# Altium integrated library Microchip DSC 16-Bit dsPIC33F.IntLib: 595 symbols (part 14 of 31)
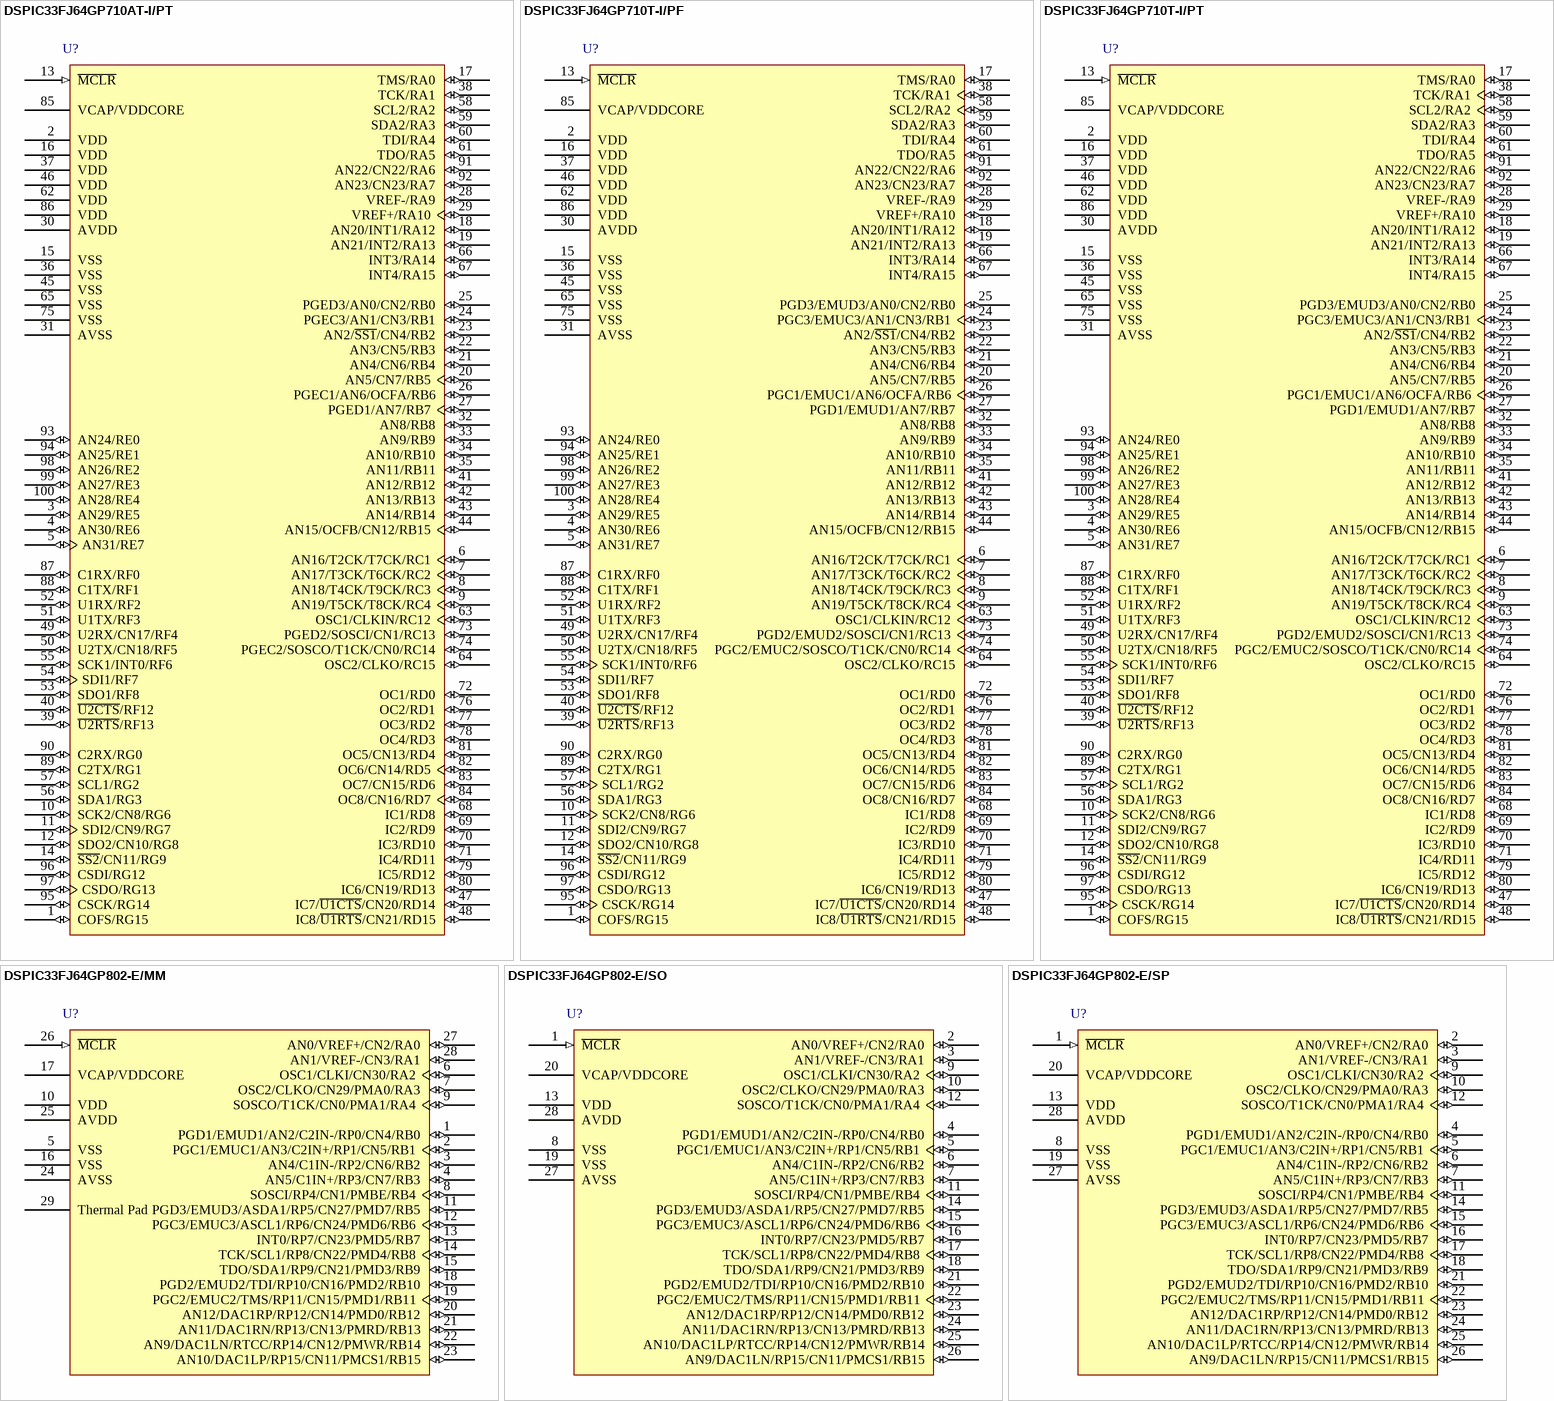
[diagram p131: symbols DSPIC33FJ64GP710AT-I/PT to DSPIC33FJ64GP802-E/SP]

## DSPIC33FJ64GP710T-I/PT
designator U?
High-Performance 16-bit Digital Signal Controller, 64 KB Flash, 16 KB RAM, 100-Pin TQFP, Industrial Temperature, Tape and Reel; FirstPublished: 29-Jan-2009; LatestRevisionDate: 02-Dec-2009; LatestRevisionNote: Updated to datasheet revision C, Mar-2009; DatasheetVersion: revC, Mar-2009; PackageVersion: revBB, Aug-2009; PackageReference: TQFP-PT100; Publisher: Altium Limited; PackageDescription: 100-Lead Plastic Thin Quad Flatpack (PT) - 12x12x1mm Body, 2.00mm [TQFP]; Supplier 1: Digi-Key; Supplier Part Number 1: DSPIC33FJ64GP710T-I/PT-ND; Supplier 2: Newark; Supplier Part Number 2: 54M4535; ComponentLink1Description: Datasheet; ComponentLink1URL: http://ww1.microchip.com/downloads/en/DeviceDoc/70286C.pdf; ComponentLink2Description: Packaging Specification; ComponentLink2URL: http://www.microchip.com/stellent/groups/techpub_sg/documents/packagingspec/en012702.pdf; ComponentLink3Description: Microchip.com Home; ComponentLink3URL: http://www.microchip.com/
footprint TQFP-PT100_N (Thin QFP, 100-Leads, Body 12x12mm, Pitch 0.4mm, IPC Medium Density)
footprint TQFP-PT100_L (Thin QFP, 100-Leads, Body 12x12mm, Pitch 0.4mm, IPC High Density)
footprint TQFP-PT100_M (Thin QFP, 100-Leads, Body 12x12mm, Pitch 0.4mm, IPC Low Density)
pins: 1 COFS/RG15 (io), 2 VDD (power), 3 AN29/RE5 (io), 4 AN30/RE6 (io), 5 AN31/RE7 (io), 6 AN16/T2CK/T7CK/RC1 (io), 7 AN17/T3CK/T6CK/RC2 (io), 8 AN18/T4CK/T9CK/RC3 (io), 9 AN19/T5CK/T8CK/RC4 (io), 10 SCK2/CN8/RG6 (io), 11 SDI2/CN9/RG7 (io), 12 SDO2/CN10/RG8 (io), 13 ~{MCLR} (in), 14 ~{SS2}/CN11/RG9 (io), 15 VSS (power), 16 VDD (power), 17 TMS/RA0 (io), 18 AN20/INT1/RA12 (io), 19 AN21/INT2/RA13 (io), 20 AN5/CN7/RB5 (io), 21 AN4/CN6/RB4 (io), 22 AN3/CN5/RB3 (io), 23 AN2/~{SS1}/CN4/RB2 (io), 24 PGC3/EMUC3/AN1/CN3/RB1 (io), 25 PGD3/EMUD3/AN0/CN2/RB0 (io), 26 PGC1/EMUC1/AN6/OCFA/RB6 (io), 27 PGD1/EMUD1/AN7/RB7 (io), 28 VREF-/RA9 (io), 29 VREF+/RA10 (io), 30 AVDD (power), 31 AVSS (power), 32 AN8/RB8 (io), 33 AN9/RB9 (io), 34 AN10/RB10 (io), 35 AN11/RB11 (io), 36 VSS (power), 37 VDD (power), 38 TCK/RA1 (io), 39 ~{U2RTS}/RF13 (io), 40 ~{U2CTS}/RF12 (io), 41 AN12/RB12 (io), 42 AN13/RB13 (io), 43 AN14/RB14 (io), 44 AN15/OCFB/CN12/RB15 (io), 45 VSS (power), 46 VDD (power), 47 IC7/~{U1CTS}/CN20/RD14 (io), 48 IC8/~{U1RTS}/CN21/RD15 (io), 49 U2RX/CN17/RF4 (io), 50 U2TX/CN18/RF5 (io), 51 U1TX/RF3 (io), 52 U1RX/RF2 (io), 53 SDO1/RF8 (io), 54 SDI1/RF7 (io), 55 SCK1/INT0/RF6 (io), 56 SDA1/RG3 (io), 57 SCL1/RG2 (io), 58 SCL2/RA2 (io), 59 SDA2/RA3 (io), 60 TDI/RA4 (io), 61 TDO/RA5 (io), 62 VDD (power), 63 OSC1/CLKIN/RC12 (io), 64 OSC2/CLKO/RC15 (io), 65 VSS (power), 66 INT3/RA14 (io), 67 INT4/RA15 (io), 68 IC1/RD8 (io), 69 IC2/RD9 (io), 70 IC3/RD10 (io), 71 IC4/RD11 (io), 72 OC1/RD0 (io), 73 PGD2/EMUD2/SOSCI/CN1/RC13 (io), 74 PGC2/EMUC2/SOSCO/T1CK/CN0/RC14 (io), 75 VSS (power), 76 OC2/RD1 (io), 77 OC3/RD2 (io), 78 OC4/RD3 (io), 79 IC5/RD12 (io), 80 IC6/CN19/RD13 (io), 81 OC5/CN13/RD4 (io), 82 OC6/CN14/RD5 (io), 83 OC7/CN15/RD6 (io), 84 OC8/CN16/RD7 (io), 85 VCAP/VDDCORE (power), 86 VDD (power), 87 C1RX/RF0 (io), 88 C1TX/RF1 (io), 89 C2TX/RG1 (io), 90 C2RX/RG0 (io), 91 AN22/CN22/RA6 (io), 92 AN23/CN23/RA7 (io), 93 AN24/RE0 (io), 94 AN25/RE1 (io), 95 CSCK/RG14 (io), 96 CSDI/RG12 (io), 97 CSDO/RG13 (io), 98 AN26/RE2 (io), 99 AN27/RE3 (io), 100 AN28/RE4 (io)

## DSPIC33FJ64GP802-E/MM
designator U?
High-Performance 16-bit Digital Signal Controller, 64 KB Flash, 16 KB RAM, 28-Pin QFN, Extended High Temperature; FirstPublished: 29-Jan-2009; LatestRevisionDate: 02-Dec-2009; LatestRevisionNote: Updated to datasheet revision D, Nov-2009; DatasheetVersion: revD, Nov-2009; PackageVersion: revBB, Aug-2009; PackageReference: QFNS-MM28; Publisher: Altium Limited; PackageDescription: 28-Lead Plastic Quad Flat, No Lead Package (MM) - 6x6x0.9 mm Body [QFN-S] with 0.40 mm Contact Length; Supplier 1: Digi-Key; Supplier Part Number 1: DSPIC33FJ64GP802-E/MM-ND; Supplier 2: Newark; Supplier Part Number 2: 77M2373; ComponentLink1Description: Datasheet; ComponentLink1URL: http://ww1.microchip.com/downloads/en/DeviceDoc/70292D.pdf; ComponentLink2Description: Packaging Specification; ComponentLink2URL: http://www.microchip.com/stellent/groups/techpub_sg/documents/packagingspec/en012702.pdf; ComponentLink3Description: Microchip.com Home; ComponentLink3URL: http://www.microchip.com/
footprint QFNS-MM28_N (QFN, 28-Leads, Body 6x6 mm, Pitch 0.65mm, IPC Medium Density)
footprint QFNS-MM28_L (QFN, 28-Leads, Body 6x6 mm, Pitch 0.65mm, IPC High Density)
footprint QFNS-MM28_M (QFN, 28-Leads, Body 6x6 mm, Pitch 0.65mm, IPC Low Density)
pins: 1 PGD1/EMUD1/AN2/C2IN-/RP0/CN4/RB0 (io), 2 PGC1/EMUC1/AN3/C2IN+/RP1/CN5/RB1 (io), 3 AN4/C1IN-/RP2/CN6/RB2 (io), 4 AN5/C1IN+/RP3/CN7/RB3 (io), 5 VSS (power), 6 OSC1/CLKI/CN30/RA2 (io), 7 OSC2/CLKO/CN29/PMA0/RA3 (io), 8 SOSCI/RP4/CN1/PMBE/RB4 (io), 9 SOSCO/T1CK/CN0/PMA1/RA4 (io), 10 VDD (power), 11 PGD3/EMUD3/ASDA1/RP5/CN27/PMD7/RB5 (io), 12 PGC3/EMUC3/ASCL1/RP6/CN24/PMD6/RB6 (io), 13 INT0/RP7/CN23/PMD5/RB7 (io), 14 TCK/SCL1/RP8/CN22/PMD4/RB8 (io), 15 TDO/SDA1/RP9/CN21/PMD3/RB9 (io), 16 VSS (power), 17 VCAP/VDDCORE (power), 18 PGD2/EMUD2/TDI/RP10/CN16/PMD2/RB10 (io), 19 PGC2/EMUC2/TMS/RP11/CN15/PMD1/RB11 (io), 20 AN12/DAC1RP/RP12/CN14/PMD0/RB12 (io), 21 AN11/DAC1RN/RP13/CN13/PMRD/RB13 (io), 22 AN9/DAC1LN/RTCC/RP14/CN12/PMWR/RB14 (io), 23 AN10/DAC1LP/RP15/CN11/PMCS1/RB15 (io), 24 AVSS (power), 25 AVDD (power), 26 ~{MCLR} (in), 27 AN0/VREF+/CN2/RA0 (io), 28 AN1/VREF-/CN3/RA1 (io), 29 Thermal Pad

## DSPIC33FJ64GP802-E/SO
designator U?
High-Performance 16-bit Digital Signal Controller, 64 KB Flash, 16 KB RAM, 28-Pin SOIC, Extended High Temperature; FirstPublished: 29-Jan-2009; LatestRevisionDate: 02-Dec-2009; LatestRevisionNote: Updated to datasheet revision D, Nov-2009; DatasheetVersion: revD, Nov-2009; PackageVersion: revBB, Aug-2009; PackageReference: SOIC-SO28; Publisher: Altium Limited; PackageDescription: 28-Lead Plastic Small Outline (SO) - Wide 7.50mm Body [SOIC]; Supplier 1: Digi-Key; Supplier Part Number 1: DSPIC33FJ64GP802-E/SO-ND; Supplier 2: Newark; Supplier Part Number 2: 39M8222; Code_JEDEC: MS-013; ComponentLink1Description: Datasheet; ComponentLink1URL: http://ww1.microchip.com/downloads/en/DeviceDoc/70292D.pdf; ComponentLink2Description: Packaging Specification; ComponentLink2URL: http://www.microchip.com/stellent/groups/techpub_sg/documents/packagingspec/en012702.pdf; ComponentLink3Description: Microchip.com Home; ComponentLink3URL: http://www.microchip.com/
footprint SOIC-SO28_N (SOIC, 28-Leads, Body 17.9x7.5mm, Pitch 1.27mm, IPC Medium Density)
footprint SOIC-SO28_L (SOIC, 28-Leads, Body 17.9x7.5mm, Pitch 1.27mm, IPC High Density)
footprint SOIC-SO28_M (SOIC, 28-Leads, Body 17.9x7.5mm, Pitch 1.27mm, IPC Low Density)
pins: 1 ~{MCLR} (in), 2 AN0/VREF+/CN2/RA0 (io), 3 AN1/VREF-/CN3/RA1 (io), 4 PGD1/EMUD1/AN2/C2IN-/RP0/CN4/RB0 (io), 5 PGC1/EMUC1/AN3/C2IN+/RP1/CN5/RB1 (io), 6 AN4/C1IN-/RP2/CN6/RB2 (io), 7 AN5/C1IN+/RP3/CN7/RB3 (io), 8 VSS (power), 9 OSC1/CLKI/CN30/RA2 (io), 10 OSC2/CLKO/CN29/PMA0/RA3 (io), 11 SOSCI/RP4/CN1/PMBE/RB4 (io), 12 SOSCO/T1CK/CN0/PMA1/RA4 (io), 13 VDD (power), 14 PGD3/EMUD3/ASDA1/RP5/CN27/PMD7/RB5 (io), 15 PGC3/EMUC3/ASCL1/RP6/CN24/PMD6/RB6 (io), 16 INT0/RP7/CN23/PMD5/RB7 (io), 17 TCK/SCL1/RP8/CN22/PMD4/RB8 (io), 18 TDO/SDA1/RP9/CN21/PMD3/RB9 (io), 19 VSS (power), 20 VCAP/VDDCORE (power), 21 PGD2/EMUD2/TDI/RP10/CN16/PMD2/RB10 (io), 22 PGC2/EMUC2/TMS/RP11/CN15/PMD1/RB11 (io), 23 AN12/DAC1RP/RP12/CN14/PMD0/RB12 (io), 24 AN11/DAC1RN/RP13/CN13/PMRD/RB13 (io), 25 AN10/DAC1LP/RTCC/RP14/CN12/PMWR/RB14 (io), 26 AN9/DAC1LN/RP15/CN11/PMCS1/RB15 (io), 27 AVSS (power), 28 AVDD (power)

## DSPIC33FJ64GP802-E/SP
designator U?
High-Performance 16-bit Digital Signal Controller, 64 KB Flash, 16 KB RAM, 28-Pin SPDIP, Extended High Temperature; FirstPublished: 29-Jan-2009; LatestRevisionDate: 02-Dec-2009; LatestRevisionNote: Updated to datasheet revision D, Nov-2009; DatasheetVersion: revD, Nov-2009; PackageVersion: revBB, Aug-2009; PackageReference: SPDIP300-SP28; Publisher: Altium Limited; PackageDescription: 28-Lead Skinny Plastic Dual In-Line (SP) - 300 mil Body [SPDIP]; Supplier 1: Digi-Key; Supplier Part Number 1: DSPIC33FJ64GP802-E/SP-ND; Supplier 2: Newark; Supplier Part Number 2: 39M8223; ComponentLink1Description: Datasheet; ComponentLink1URL: http://ww1.microchip.com/downloads/en/DeviceDoc/70292D.pdf; ComponentLink2Description: Packaging Specification; ComponentLink2URL: http://www.microchip.com/stellent/groups/techpub_sg/documents/packagingspec/en012702.pdf; ComponentLink3Description: Microchip.com Home; ComponentLink3URL: http://www.microchip.com/
footprint SPDIP300-SP28 (DIP, 28-Leads, Row Spacing 7.62mm, Pitch 2.54mm, Body 34.9x6.8mm)
pins: 1 ~{MCLR} (in), 2 AN0/VREF+/CN2/RA0 (io), 3 AN1/VREF-/CN3/RA1 (io), 4 PGD1/EMUD1/AN2/C2IN-/RP0/CN4/RB0 (io), 5 PGC1/EMUC1/AN3/C2IN+/RP1/CN5/RB1 (io), 6 AN4/C1IN-/RP2/CN6/RB2 (io), 7 AN5/C1IN+/RP3/CN7/RB3 (io), 8 VSS (power), 9 OSC1/CLKI/CN30/RA2 (io), 10 OSC2/CLKO/CN29/PMA0/RA3 (io), 11 SOSCI/RP4/CN1/PMBE/RB4 (io), 12 SOSCO/T1CK/CN0/PMA1/RA4 (io), 13 VDD (power), 14 PGD3/EMUD3/ASDA1/RP5/CN27/PMD7/RB5 (io), 15 PGC3/EMUC3/ASCL1/RP6/CN24/PMD6/RB6 (io), 16 INT0/RP7/CN23/PMD5/RB7 (io), 17 TCK/SCL1/RP8/CN22/PMD4/RB8 (io), 18 TDO/SDA1/RP9/CN21/PMD3/RB9 (io), 19 VSS (power), 20 VCAP/VDDCORE (power), 21 PGD2/EMUD2/TDI/RP10/CN16/PMD2/RB10 (io), 22 PGC2/EMUC2/TMS/RP11/CN15/PMD1/RB11 (io), 23 AN12/DAC1RP/RP12/CN14/PMD0/RB12 (io), 24 AN11/DAC1RN/RP13/CN13/PMRD/RB13 (io), 25 AN10/DAC1LP/RTCC/RP14/CN12/PMWR/RB14 (io), 26 AN9/DAC1LN/RP15/CN11/PMCS1/RB15 (io), 27 AVSS (power), 28 AVDD (power)

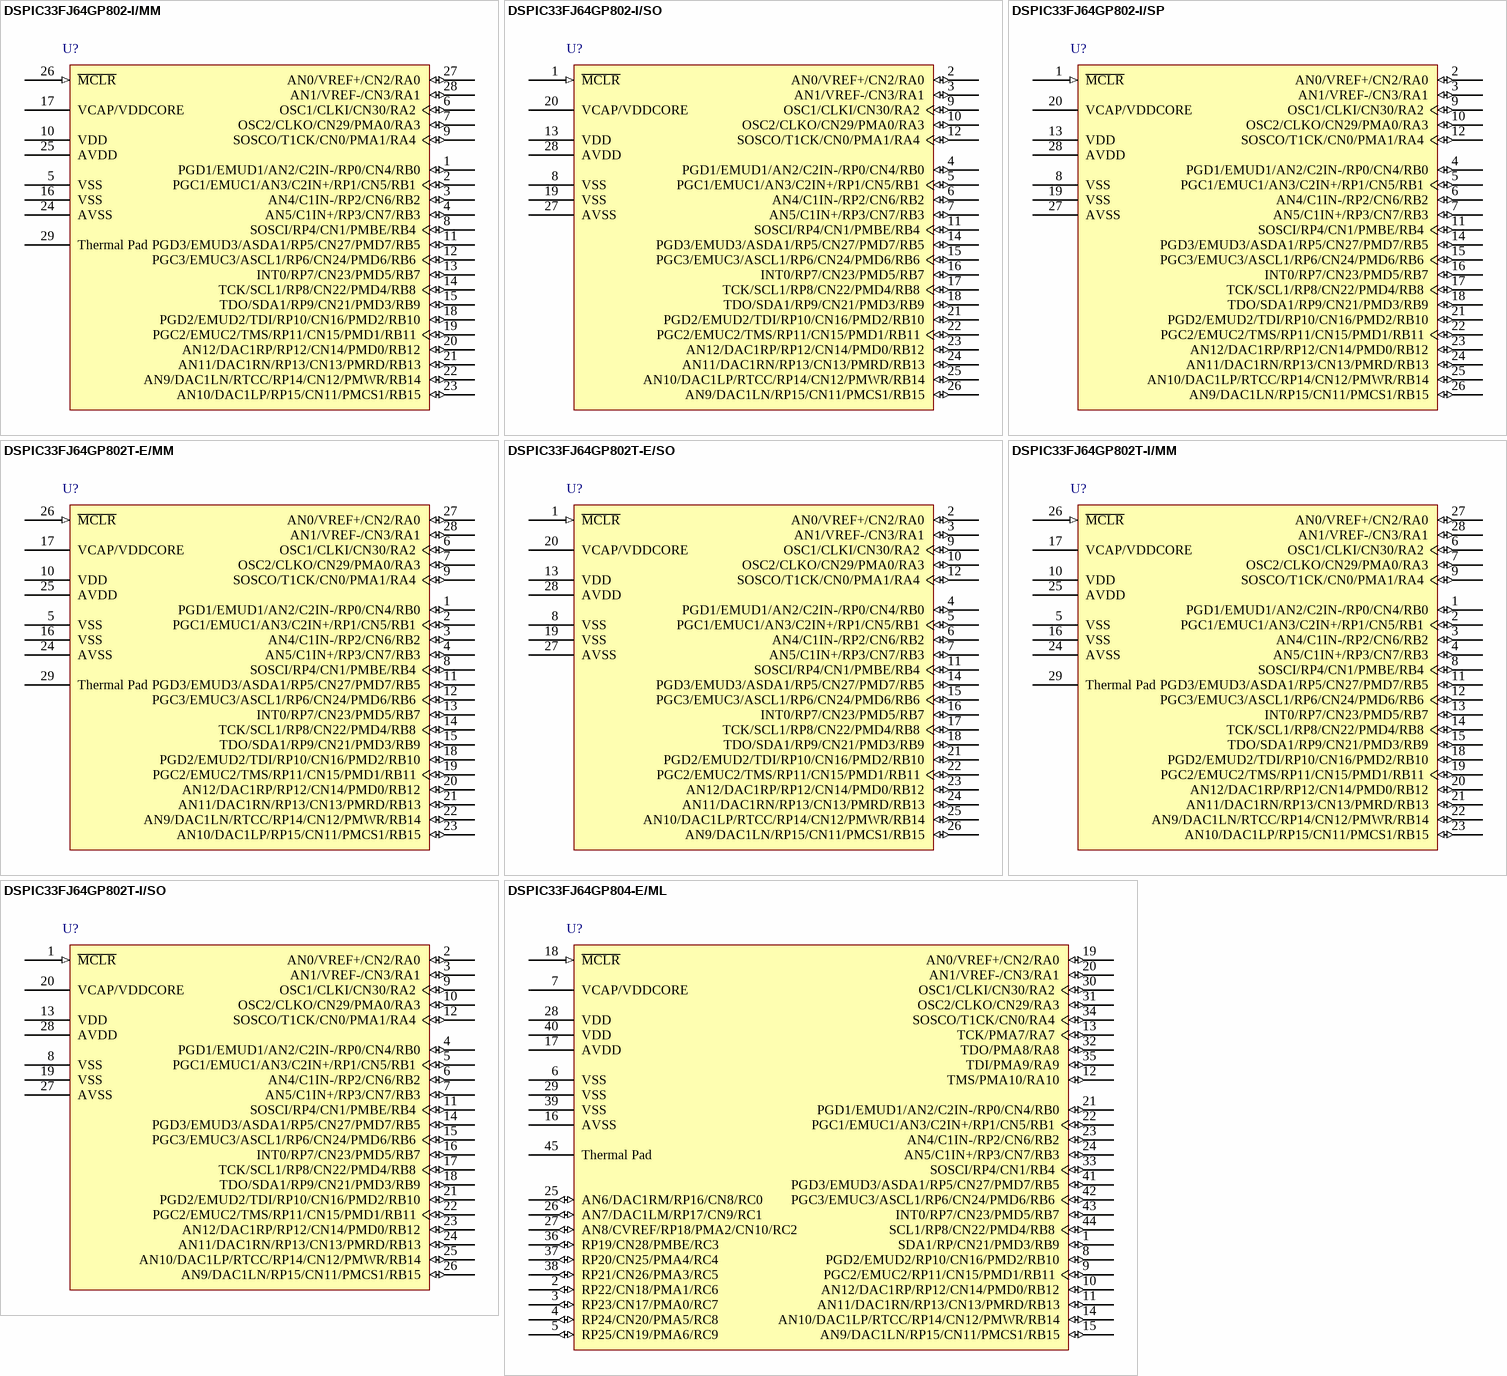
[diagram p45: symbols DSPIC33FJ64GP802-I/MM to DSPIC33FJ64GP804-E/ML]

## DSPIC33FJ64GP802-I/MM
designator U?
High-Performance 16-bit Digital Signal Controller, 64 KB Flash, 16 KB RAM, 28-Pin QFN, Industrial Temperature; FirstPublished: 2-Dec-2009; DatasheetVersion: revD, Nov-2009; PackageVersion: revBB, Aug-2009; PackageReference: QFNS-MM28; Publisher: Altium Limited; PackageDescription: 28-Lead Plastic Quad Flat, No Lead Package (MM) - 6x6x0.9 mm Body [QFN-S] with 0.40 mm Contact Length; Supplier 1: Digi-Key; Supplier Part Number 1: DSPIC33FJ64GP802-I/MM-ND; Supplier 2: Farnell; Supplier Part Number 2: 1576828; Supplier 3: Newark; Supplier Part Number 3: 77M2374; ComponentLink1Description: Datasheet; ComponentLink1URL: http://ww1.microchip.com/downloads/en/DeviceDoc/70292D.pdf; ComponentLink2Description: Packaging Specification; ComponentLink2URL: http://www.microchip.com/stellent/groups/techpub_sg/documents/packagingspec/en012702.pdf; ComponentLink3Description: Microchip.com Home; ComponentLink3URL: http://www.microchip.com/
footprint QFNS-MM28_N (QFN, 28-Leads, Body 6x6 mm, Pitch 0.65mm, IPC Medium Density)
footprint QFNS-MM28_L (QFN, 28-Leads, Body 6x6 mm, Pitch 0.65mm, IPC High Density)
footprint QFNS-MM28_M (QFN, 28-Leads, Body 6x6 mm, Pitch 0.65mm, IPC Low Density)
pins: 1 PGD1/EMUD1/AN2/C2IN-/RP0/CN4/RB0 (io), 2 PGC1/EMUC1/AN3/C2IN+/RP1/CN5/RB1 (io), 3 AN4/C1IN-/RP2/CN6/RB2 (io), 4 AN5/C1IN+/RP3/CN7/RB3 (io), 5 VSS (power), 6 OSC1/CLKI/CN30/RA2 (io), 7 OSC2/CLKO/CN29/PMA0/RA3 (io), 8 SOSCI/RP4/CN1/PMBE/RB4 (io), 9 SOSCO/T1CK/CN0/PMA1/RA4 (io), 10 VDD (power), 11 PGD3/EMUD3/ASDA1/RP5/CN27/PMD7/RB5 (io), 12 PGC3/EMUC3/ASCL1/RP6/CN24/PMD6/RB6 (io), 13 INT0/RP7/CN23/PMD5/RB7 (io), 14 TCK/SCL1/RP8/CN22/PMD4/RB8 (io), 15 TDO/SDA1/RP9/CN21/PMD3/RB9 (io), 16 VSS (power), 17 VCAP/VDDCORE (power), 18 PGD2/EMUD2/TDI/RP10/CN16/PMD2/RB10 (io), 19 PGC2/EMUC2/TMS/RP11/CN15/PMD1/RB11 (io), 20 AN12/DAC1RP/RP12/CN14/PMD0/RB12 (io), 21 AN11/DAC1RN/RP13/CN13/PMRD/RB13 (io), 22 AN9/DAC1LN/RTCC/RP14/CN12/PMWR/RB14 (io), 23 AN10/DAC1LP/RP15/CN11/PMCS1/RB15 (io), 24 AVSS (power), 25 AVDD (power), 26 ~{MCLR} (in), 27 AN0/VREF+/CN2/RA0 (io), 28 AN1/VREF-/CN3/RA1 (io), 29 Thermal Pad

## DSPIC33FJ64GP802-I/SO
designator U?
High-Performance 16-bit Digital Signal Controller, 64 KB Flash, 16 KB RAM, 28-Pin SOIC, Industrial Temperature; FirstPublished: 29-Jan-2009; LatestRevisionDate: 02-Dec-2009; LatestRevisionNote: Updated to datasheet revision D, Nov-2009; DatasheetVersion: revD, Nov-2009; PackageVersion: revBB, Aug-2009; PackageReference: SOIC-SO28; Publisher: Altium Limited; PackageDescription: 28-Lead Plastic Small Outline (SO) - Wide 7.50mm Body [SOIC]; Supplier 1: Digi-Key; Supplier Part Number 1: DSPIC33FJ64GP802-I/SO-ND; Supplier 2: Farnell; Supplier Part Number 2: 1576829; Supplier 3: Newark; Supplier Part Number 3: 39M8224; Code_JEDEC: MS-013; ComponentLink1Description: Datasheet; ComponentLink1URL: http://ww1.microchip.com/downloads/en/DeviceDoc/70292D.pdf; ComponentLink2Description: Packaging Specification; ComponentLink2URL: http://www.microchip.com/stellent/groups/techpub_sg/documents/packagingspec/en012702.pdf; ComponentLink3Description: Microchip.com Home; ComponentLink3URL: http://www.microchip.com/
footprint SOIC-SO28_N (SOIC, 28-Leads, Body 17.9x7.5mm, Pitch 1.27mm, IPC Medium Density)
footprint SOIC-SO28_L (SOIC, 28-Leads, Body 17.9x7.5mm, Pitch 1.27mm, IPC High Density)
footprint SOIC-SO28_M (SOIC, 28-Leads, Body 17.9x7.5mm, Pitch 1.27mm, IPC Low Density)
pins: 1 ~{MCLR} (in), 2 AN0/VREF+/CN2/RA0 (io), 3 AN1/VREF-/CN3/RA1 (io), 4 PGD1/EMUD1/AN2/C2IN-/RP0/CN4/RB0 (io), 5 PGC1/EMUC1/AN3/C2IN+/RP1/CN5/RB1 (io), 6 AN4/C1IN-/RP2/CN6/RB2 (io), 7 AN5/C1IN+/RP3/CN7/RB3 (io), 8 VSS (power), 9 OSC1/CLKI/CN30/RA2 (io), 10 OSC2/CLKO/CN29/PMA0/RA3 (io), 11 SOSCI/RP4/CN1/PMBE/RB4 (io), 12 SOSCO/T1CK/CN0/PMA1/RA4 (io), 13 VDD (power), 14 PGD3/EMUD3/ASDA1/RP5/CN27/PMD7/RB5 (io), 15 PGC3/EMUC3/ASCL1/RP6/CN24/PMD6/RB6 (io), 16 INT0/RP7/CN23/PMD5/RB7 (io), 17 TCK/SCL1/RP8/CN22/PMD4/RB8 (io), 18 TDO/SDA1/RP9/CN21/PMD3/RB9 (io), 19 VSS (power), 20 VCAP/VDDCORE (power), 21 PGD2/EMUD2/TDI/RP10/CN16/PMD2/RB10 (io), 22 PGC2/EMUC2/TMS/RP11/CN15/PMD1/RB11 (io), 23 AN12/DAC1RP/RP12/CN14/PMD0/RB12 (io), 24 AN11/DAC1RN/RP13/CN13/PMRD/RB13 (io), 25 AN10/DAC1LP/RTCC/RP14/CN12/PMWR/RB14 (io), 26 AN9/DAC1LN/RP15/CN11/PMCS1/RB15 (io), 27 AVSS (power), 28 AVDD (power)

## DSPIC33FJ64GP802-I/SP
designator U?
High-Performance 16-bit Digital Signal Controller, 64 KB Flash, 16 KB RAM, 28-Pin SPDIP, Industrial Temperature; FirstPublished: 29-Jan-2009; LatestRevisionDate: 02-Dec-2009; LatestRevisionNote: Updated to datasheet revision D, Nov-2009; DatasheetVersion: revD, Nov-2009; PackageVersion: revBB, Aug-2009; PackageReference: SPDIP300-SP28; Publisher: Altium Limited; PackageDescription: 28-Lead Skinny Plastic Dual In-Line (SP) - 300 mil Body [SPDIP]; Supplier 1: Digi-Key; Supplier Part Number 1: DSPIC33FJ64GP802-I/SP-ND; Supplier 2: Farnell; Supplier Part Number 2: 1576830; Supplier 3: Newark; Supplier Part Number 3: 39M8225; ComponentLink1Description: Datasheet; ComponentLink1URL: http://ww1.microchip.com/downloads/en/DeviceDoc/70292D.pdf; ComponentLink2Description: Packaging Specification; ComponentLink2URL: http://www.microchip.com/stellent/groups/techpub_sg/documents/packagingspec/en012702.pdf; ComponentLink3Description: Microchip.com Home; ComponentLink3URL: http://www.microchip.com/
footprint SPDIP300-SP28 (DIP, 28-Leads, Row Spacing 7.62mm, Pitch 2.54mm, Body 34.9x6.8mm)
pins: 1 ~{MCLR} (in), 2 AN0/VREF+/CN2/RA0 (io), 3 AN1/VREF-/CN3/RA1 (io), 4 PGD1/EMUD1/AN2/C2IN-/RP0/CN4/RB0 (io), 5 PGC1/EMUC1/AN3/C2IN+/RP1/CN5/RB1 (io), 6 AN4/C1IN-/RP2/CN6/RB2 (io), 7 AN5/C1IN+/RP3/CN7/RB3 (io), 8 VSS (power), 9 OSC1/CLKI/CN30/RA2 (io), 10 OSC2/CLKO/CN29/PMA0/RA3 (io), 11 SOSCI/RP4/CN1/PMBE/RB4 (io), 12 SOSCO/T1CK/CN0/PMA1/RA4 (io), 13 VDD (power), 14 PGD3/EMUD3/ASDA1/RP5/CN27/PMD7/RB5 (io), 15 PGC3/EMUC3/ASCL1/RP6/CN24/PMD6/RB6 (io), 16 INT0/RP7/CN23/PMD5/RB7 (io), 17 TCK/SCL1/RP8/CN22/PMD4/RB8 (io), 18 TDO/SDA1/RP9/CN21/PMD3/RB9 (io), 19 VSS (power), 20 VCAP/VDDCORE (power), 21 PGD2/EMUD2/TDI/RP10/CN16/PMD2/RB10 (io), 22 PGC2/EMUC2/TMS/RP11/CN15/PMD1/RB11 (io), 23 AN12/DAC1RP/RP12/CN14/PMD0/RB12 (io), 24 AN11/DAC1RN/RP13/CN13/PMRD/RB13 (io), 25 AN10/DAC1LP/RTCC/RP14/CN12/PMWR/RB14 (io), 26 AN9/DAC1LN/RP15/CN11/PMCS1/RB15 (io), 27 AVSS (power), 28 AVDD (power)

## DSPIC33FJ64GP802T-E/MM
designator U?
High-Performance 16-bit Digital Signal Controller, 64 KB Flash, 16 KB RAM, 28-Pin QFN, Extended High Temperature, Tape and Reel; FirstPublished: 29-Jan-2009; LatestRevisionDate: 02-Dec-2009; LatestRevisionNote: Updated to datasheet revision D, Nov-2009; DatasheetVersion: revD, Nov-2009; PackageVersion: revBB, Aug-2009; PackageReference: QFNS-MM28; Publisher: Altium Limited; PackageDescription: 28-Lead Plastic Quad Flat, No Lead Package (MM) - 6x6x0.9 mm Body [QFN-S] with 0.40 mm Contact Length; ComponentLink1Description: Datasheet; ComponentLink1URL: http://ww1.microchip.com/downloads/en/DeviceDoc/70292D.pdf; ComponentLink2Description: Packaging Specification; ComponentLink2URL: http://www.microchip.com/stellent/groups/techpub_sg/documents/packagingspec/en012702.pdf; ComponentLink3Description: Microchip.com Home; ComponentLink3URL: http://www.microchip.com/
footprint QFNS-MM28_N (QFN, 28-Leads, Body 6x6 mm, Pitch 0.65mm, IPC Medium Density)
footprint QFNS-MM28_L (QFN, 28-Leads, Body 6x6 mm, Pitch 0.65mm, IPC High Density)
footprint QFNS-MM28_M (QFN, 28-Leads, Body 6x6 mm, Pitch 0.65mm, IPC Low Density)
pins: 1 PGD1/EMUD1/AN2/C2IN-/RP0/CN4/RB0 (io), 2 PGC1/EMUC1/AN3/C2IN+/RP1/CN5/RB1 (io), 3 AN4/C1IN-/RP2/CN6/RB2 (io), 4 AN5/C1IN+/RP3/CN7/RB3 (io), 5 VSS (power), 6 OSC1/CLKI/CN30/RA2 (io), 7 OSC2/CLKO/CN29/PMA0/RA3 (io), 8 SOSCI/RP4/CN1/PMBE/RB4 (io), 9 SOSCO/T1CK/CN0/PMA1/RA4 (io), 10 VDD (power), 11 PGD3/EMUD3/ASDA1/RP5/CN27/PMD7/RB5 (io), 12 PGC3/EMUC3/ASCL1/RP6/CN24/PMD6/RB6 (io), 13 INT0/RP7/CN23/PMD5/RB7 (io), 14 TCK/SCL1/RP8/CN22/PMD4/RB8 (io), 15 TDO/SDA1/RP9/CN21/PMD3/RB9 (io), 16 VSS (power), 17 VCAP/VDDCORE (power), 18 PGD2/EMUD2/TDI/RP10/CN16/PMD2/RB10 (io), 19 PGC2/EMUC2/TMS/RP11/CN15/PMD1/RB11 (io), 20 AN12/DAC1RP/RP12/CN14/PMD0/RB12 (io), 21 AN11/DAC1RN/RP13/CN13/PMRD/RB13 (io), 22 AN9/DAC1LN/RTCC/RP14/CN12/PMWR/RB14 (io), 23 AN10/DAC1LP/RP15/CN11/PMCS1/RB15 (io), 24 AVSS (power), 25 AVDD (power), 26 ~{MCLR} (in), 27 AN0/VREF+/CN2/RA0 (io), 28 AN1/VREF-/CN3/RA1 (io), 29 Thermal Pad

## DSPIC33FJ64GP802T-E/SO
designator U?
High-Performance 16-bit Digital Signal Controller, 64 KB Flash, 16 KB RAM, 28-Pin SOIC, Extended High Temperature, Tape and Reel; FirstPublished: 29-Jan-2009; LatestRevisionDate: 02-Dec-2009; LatestRevisionNote: Updated to datasheet revision D, Nov-2009; DatasheetVersion: revD, Nov-2009; PackageVersion: revBB, Aug-2009; PackageReference: SOIC-SO28; Publisher: Altium Limited; PackageDescription: 28-Lead Plastic Small Outline (SO) - Wide 7.50mm Body [SOIC]; Code_JEDEC: MS-013; ComponentLink1Description: Datasheet; ComponentLink1URL: http://ww1.microchip.com/downloads/en/DeviceDoc/70292D.pdf; ComponentLink2Description: Packaging Specification; ComponentLink2URL: http://www.microchip.com/stellent/groups/techpub_sg/documents/packagingspec/en012702.pdf; ComponentLink3Description: Microchip.com Home; ComponentLink3URL: http://www.microchip.com/
footprint SOIC-SO28_N (SOIC, 28-Leads, Body 17.9x7.5mm, Pitch 1.27mm, IPC Medium Density)
footprint SOIC-SO28_L (SOIC, 28-Leads, Body 17.9x7.5mm, Pitch 1.27mm, IPC High Density)
footprint SOIC-SO28_M (SOIC, 28-Leads, Body 17.9x7.5mm, Pitch 1.27mm, IPC Low Density)
pins: 1 ~{MCLR} (in), 2 AN0/VREF+/CN2/RA0 (io), 3 AN1/VREF-/CN3/RA1 (io), 4 PGD1/EMUD1/AN2/C2IN-/RP0/CN4/RB0 (io), 5 PGC1/EMUC1/AN3/C2IN+/RP1/CN5/RB1 (io), 6 AN4/C1IN-/RP2/CN6/RB2 (io), 7 AN5/C1IN+/RP3/CN7/RB3 (io), 8 VSS (power), 9 OSC1/CLKI/CN30/RA2 (io), 10 OSC2/CLKO/CN29/PMA0/RA3 (io), 11 SOSCI/RP4/CN1/PMBE/RB4 (io), 12 SOSCO/T1CK/CN0/PMA1/RA4 (io), 13 VDD (power), 14 PGD3/EMUD3/ASDA1/RP5/CN27/PMD7/RB5 (io), 15 PGC3/EMUC3/ASCL1/RP6/CN24/PMD6/RB6 (io), 16 INT0/RP7/CN23/PMD5/RB7 (io), 17 TCK/SCL1/RP8/CN22/PMD4/RB8 (io), 18 TDO/SDA1/RP9/CN21/PMD3/RB9 (io), 19 VSS (power), 20 VCAP/VDDCORE (power), 21 PGD2/EMUD2/TDI/RP10/CN16/PMD2/RB10 (io), 22 PGC2/EMUC2/TMS/RP11/CN15/PMD1/RB11 (io), 23 AN12/DAC1RP/RP12/CN14/PMD0/RB12 (io), 24 AN11/DAC1RN/RP13/CN13/PMRD/RB13 (io), 25 AN10/DAC1LP/RTCC/RP14/CN12/PMWR/RB14 (io), 26 AN9/DAC1LN/RP15/CN11/PMCS1/RB15 (io), 27 AVSS (power), 28 AVDD (power)

## DSPIC33FJ64GP802T-I/MM
designator U?
High-Performance 16-bit Digital Signal Controller, 64 KB Flash, 16 KB RAM, 28-Pin QFN, Industrial Temperature, Tape and Reel; FirstPublished: 29-Jan-2009; LatestRevisionDate: 02-Dec-2009; LatestRevisionNote: Updated to datasheet revision D, Nov-2009; DatasheetVersion: revD, Nov-2009; PackageVersion: revBB, Aug-2009; PackageReference: QFNS-MM28; Publisher: Altium Limited; PackageDescription: 28-Lead Plastic Quad Flat, No Lead Package (MM) - 6x6x0.9 mm Body [QFN-S] with 0.40 mm Contact Length; Supplier 1: Digi-Key; Supplier Part Number 1: DSPIC33FJ64GP802T-I/MM-ND; Supplier 2: Newark; Supplier Part Number 2: 77M2375; ComponentLink1Description: Datasheet; ComponentLink1URL: http://ww1.microchip.com/downloads/en/DeviceDoc/70292D.pdf; ComponentLink2Description: Packaging Specification; ComponentLink2URL: http://www.microchip.com/stellent/groups/techpub_sg/documents/packagingspec/en012702.pdf; ComponentLink3Description: Microchip.com Home; ComponentLink3URL: http://www.microchip.com/
footprint QFNS-MM28_N (QFN, 28-Leads, Body 6x6 mm, Pitch 0.65mm, IPC Medium Density)
footprint QFNS-MM28_L (QFN, 28-Leads, Body 6x6 mm, Pitch 0.65mm, IPC High Density)
footprint QFNS-MM28_M (QFN, 28-Leads, Body 6x6 mm, Pitch 0.65mm, IPC Low Density)
pins: 1 PGD1/EMUD1/AN2/C2IN-/RP0/CN4/RB0 (io), 2 PGC1/EMUC1/AN3/C2IN+/RP1/CN5/RB1 (io), 3 AN4/C1IN-/RP2/CN6/RB2 (io), 4 AN5/C1IN+/RP3/CN7/RB3 (io), 5 VSS (power), 6 OSC1/CLKI/CN30/RA2 (io), 7 OSC2/CLKO/CN29/PMA0/RA3 (io), 8 SOSCI/RP4/CN1/PMBE/RB4 (io), 9 SOSCO/T1CK/CN0/PMA1/RA4 (io), 10 VDD (power), 11 PGD3/EMUD3/ASDA1/RP5/CN27/PMD7/RB5 (io), 12 PGC3/EMUC3/ASCL1/RP6/CN24/PMD6/RB6 (io), 13 INT0/RP7/CN23/PMD5/RB7 (io), 14 TCK/SCL1/RP8/CN22/PMD4/RB8 (io), 15 TDO/SDA1/RP9/CN21/PMD3/RB9 (io), 16 VSS (power), 17 VCAP/VDDCORE (power), 18 PGD2/EMUD2/TDI/RP10/CN16/PMD2/RB10 (io), 19 PGC2/EMUC2/TMS/RP11/CN15/PMD1/RB11 (io), 20 AN12/DAC1RP/RP12/CN14/PMD0/RB12 (io), 21 AN11/DAC1RN/RP13/CN13/PMRD/RB13 (io), 22 AN9/DAC1LN/RTCC/RP14/CN12/PMWR/RB14 (io), 23 AN10/DAC1LP/RP15/CN11/PMCS1/RB15 (io), 24 AVSS (power), 25 AVDD (power), 26 ~{MCLR} (in), 27 AN0/VREF+/CN2/RA0 (io), 28 AN1/VREF-/CN3/RA1 (io), 29 Thermal Pad

## DSPIC33FJ64GP802T-I/SO
designator U?
High-Performance 16-bit Digital Signal Controller, 64 KB Flash, 16 KB RAM, 28-Pin SOIC, Industrial Temperature, Tape and Reel; FirstPublished: 29-Jan-2009; LatestRevisionDate: 02-Dec-2009; LatestRevisionNote: Updated to datasheet revision D, Nov-2009; DatasheetVersion: revD, Nov-2009; PackageVersion: revBB, Aug-2009; PackageReference: SOIC-SO28; Publisher: Altium Limited; PackageDescription: 28-Lead Plastic Small Outline (SO) - Wide 7.50mm Body [SOIC]; Supplier 1: Digi-Key; Supplier Part Number 1: DSPIC33FJ64GP802T-I/SOTR-ND; Supplier 2: Newark; Supplier Part Number 2: 39M8226; Code_JEDEC: MS-013; ComponentLink1Description: Datasheet; ComponentLink1URL: http://ww1.microchip.com/downloads/en/DeviceDoc/70292D.pdf; ComponentLink2Description: Packaging Specification; ComponentLink2URL: http://www.microchip.com/stellent/groups/techpub_sg/documents/packagingspec/en012702.pdf; ComponentLink3Description: Microchip.com Home; ComponentLink3URL: http://www.microchip.com/
footprint SOIC-SO28_N (SOIC, 28-Leads, Body 17.9x7.5mm, Pitch 1.27mm, IPC Medium Density)
footprint SOIC-SO28_L (SOIC, 28-Leads, Body 17.9x7.5mm, Pitch 1.27mm, IPC High Density)
footprint SOIC-SO28_M (SOIC, 28-Leads, Body 17.9x7.5mm, Pitch 1.27mm, IPC Low Density)
pins: 1 ~{MCLR} (in), 2 AN0/VREF+/CN2/RA0 (io), 3 AN1/VREF-/CN3/RA1 (io), 4 PGD1/EMUD1/AN2/C2IN-/RP0/CN4/RB0 (io), 5 PGC1/EMUC1/AN3/C2IN+/RP1/CN5/RB1 (io), 6 AN4/C1IN-/RP2/CN6/RB2 (io), 7 AN5/C1IN+/RP3/CN7/RB3 (io), 8 VSS (power), 9 OSC1/CLKI/CN30/RA2 (io), 10 OSC2/CLKO/CN29/PMA0/RA3 (io), 11 SOSCI/RP4/CN1/PMBE/RB4 (io), 12 SOSCO/T1CK/CN0/PMA1/RA4 (io), 13 VDD (power), 14 PGD3/EMUD3/ASDA1/RP5/CN27/PMD7/RB5 (io), 15 PGC3/EMUC3/ASCL1/RP6/CN24/PMD6/RB6 (io), 16 INT0/RP7/CN23/PMD5/RB7 (io), 17 TCK/SCL1/RP8/CN22/PMD4/RB8 (io), 18 TDO/SDA1/RP9/CN21/PMD3/RB9 (io), 19 VSS (power), 20 VCAP/VDDCORE (power), 21 PGD2/EMUD2/TDI/RP10/CN16/PMD2/RB10 (io), 22 PGC2/EMUC2/TMS/RP11/CN15/PMD1/RB11 (io), 23 AN12/DAC1RP/RP12/CN14/PMD0/RB12 (io), 24 AN11/DAC1RN/RP13/CN13/PMRD/RB13 (io), 25 AN10/DAC1LP/RTCC/RP14/CN12/PMWR/RB14 (io), 26 AN9/DAC1LN/RP15/CN11/PMCS1/RB15 (io), 27 AVSS (power), 28 AVDD (power)

## DSPIC33FJ64GP804-E/ML
designator U?
High-Performance 16-bit Digital Signal Controller, 64 KB Flash, 16 KB RAM, 44-Pin QFN, Extended High Temperature; FirstPublished: 29-Jan-2009; LatestRevisionDate: 02-Dec-2009; LatestRevisionNote: Updated to datasheet revision D, Nov-2009; DatasheetVersion: revD, Nov-2009; PackageVersion: revBB, Aug-2009; PackageReference: QFN-ML44; Publisher: Altium Limited; PackageDescription: 44-Lead Plastic Quad Flat, No Lead Package (ML) - 8x8 mm Body [QFN]; Supplier 1: Digi-Key; Supplier Part Number 1: DSPIC33FJ64GP804-E/ML-ND; Supplier 2: Newark; Supplier Part Number 2: 39M8227; Code_JEDEC: MO-220; Code_IPC: QFN65P800X800-44V2; ComponentLink1Description: Datasheet; ComponentLink1URL: http://ww1.microchip.com/downloads/en/DeviceDoc/70292D.pdf; ComponentLink2Description: Packaging Specification; ComponentLink2URL: http://www.microchip.com/stellent/groups/techpub_sg/documents/packagingspec/en012702.pdf; ComponentLink3Description: Microchip.com Home; ComponentLink3URL: http://www.microchip.com/
footprint QFN-ML44_N (QFN, 44-Leads, Body 8x8 mm, Pitch 0.65mm, IPC Medium Density)
footprint QFN-ML44_L (QFN, 44-Leads, Body 8x8 mm, Pitch 0.65mm, IPC High Density)
footprint QFN-ML44_M (QFN, 44-Leads, Body 8x8 mm, Pitch 0.65mm, IPC Low Density)
pins: 1 SDA1/RP/CN21/PMD3/RB9 (io), 2 RP22/CN18/PMA1/RC6 (io), 3 RP23/CN17/PMA0/RC7 (io), 4 RP24/CN20/PMA5/RC8 (io), 5 RP25/CN19/PMA6/RC9 (io), 6 VSS (power), 7 VCAP/VDDCORE (power), 8 PGD2/EMUD2/RP10/CN16/PMD2/RB10 (io), 9 PGC2/EMUC2/RP11/CN15/PMD1/RB11 (io), 10 AN12/DAC1RP/RP12/CN14/PMD0/RB12 (io), 11 AN11/DAC1RN/RP13/CN13/PMRD/RB13 (io), 12 TMS/PMA10/RA10 (io), 13 TCK/PMA7/RA7 (io), 14 AN10/DAC1LP/RTCC/RP14/CN12/PMWR/RB14 (io), 15 AN9/DAC1LN/RP15/CN11/PMCS1/RB15 (io), 16 AVSS (power), 17 AVDD (power), 18 ~{MCLR} (in), 19 AN0/VREF+/CN2/RA0 (io), 20 AN1/VREF-/CN3/RA1 (io), 21 PGD1/EMUD1/AN2/C2IN-/RP0/CN4/RB0 (io), 22 PGC1/EMUC1/AN3/C2IN+/RP1/CN5/RB1 (io), 23 AN4/C1IN-/RP2/CN6/RB2 (io), 24 AN5/C1IN+/RP3/CN7/RB3 (io), 25 AN6/DAC1RM/RP16/CN8/RC0 (io), 26 AN7/DAC1LM/RP17/CN9/RC1 (io), 27 AN8/CVREF/RP18/PMA2/CN10/RC2 (io), 28 VDD (power), 29 VSS (power), 30 OSC1/CLKI/CN30/RA2 (io), 31 OSC2/CLKO/CN29/RA3 (io), 32 TDO/PMA8/RA8 (io), 33 SOSCI/RP4/CN1/RB4 (io), 34 SOSCO/T1CK/CN0/RA4 (io), 35 TDI/PMA9/RA9 (io), 36 RP19/CN28/PMBE/RC3 (io), 37 RP20/CN25/PMA4/RC4 (io), 38 RP21/CN26/PMA3/RC5 (io), 39 VSS (power), 40 VDD (power), 41 PGD3/EMUD3/ASDA1/RP5/CN27/PMD7/RB5 (io), 42 PGC3/EMUC3/ASCL1/RP6/CN24/PMD6/RB6 (io), 43 INT0/RP7/CN23/PMD5/RB7 (io), 44 SCL1/RP8/CN22/PMD4/RB8 (io), 45 Thermal Pad

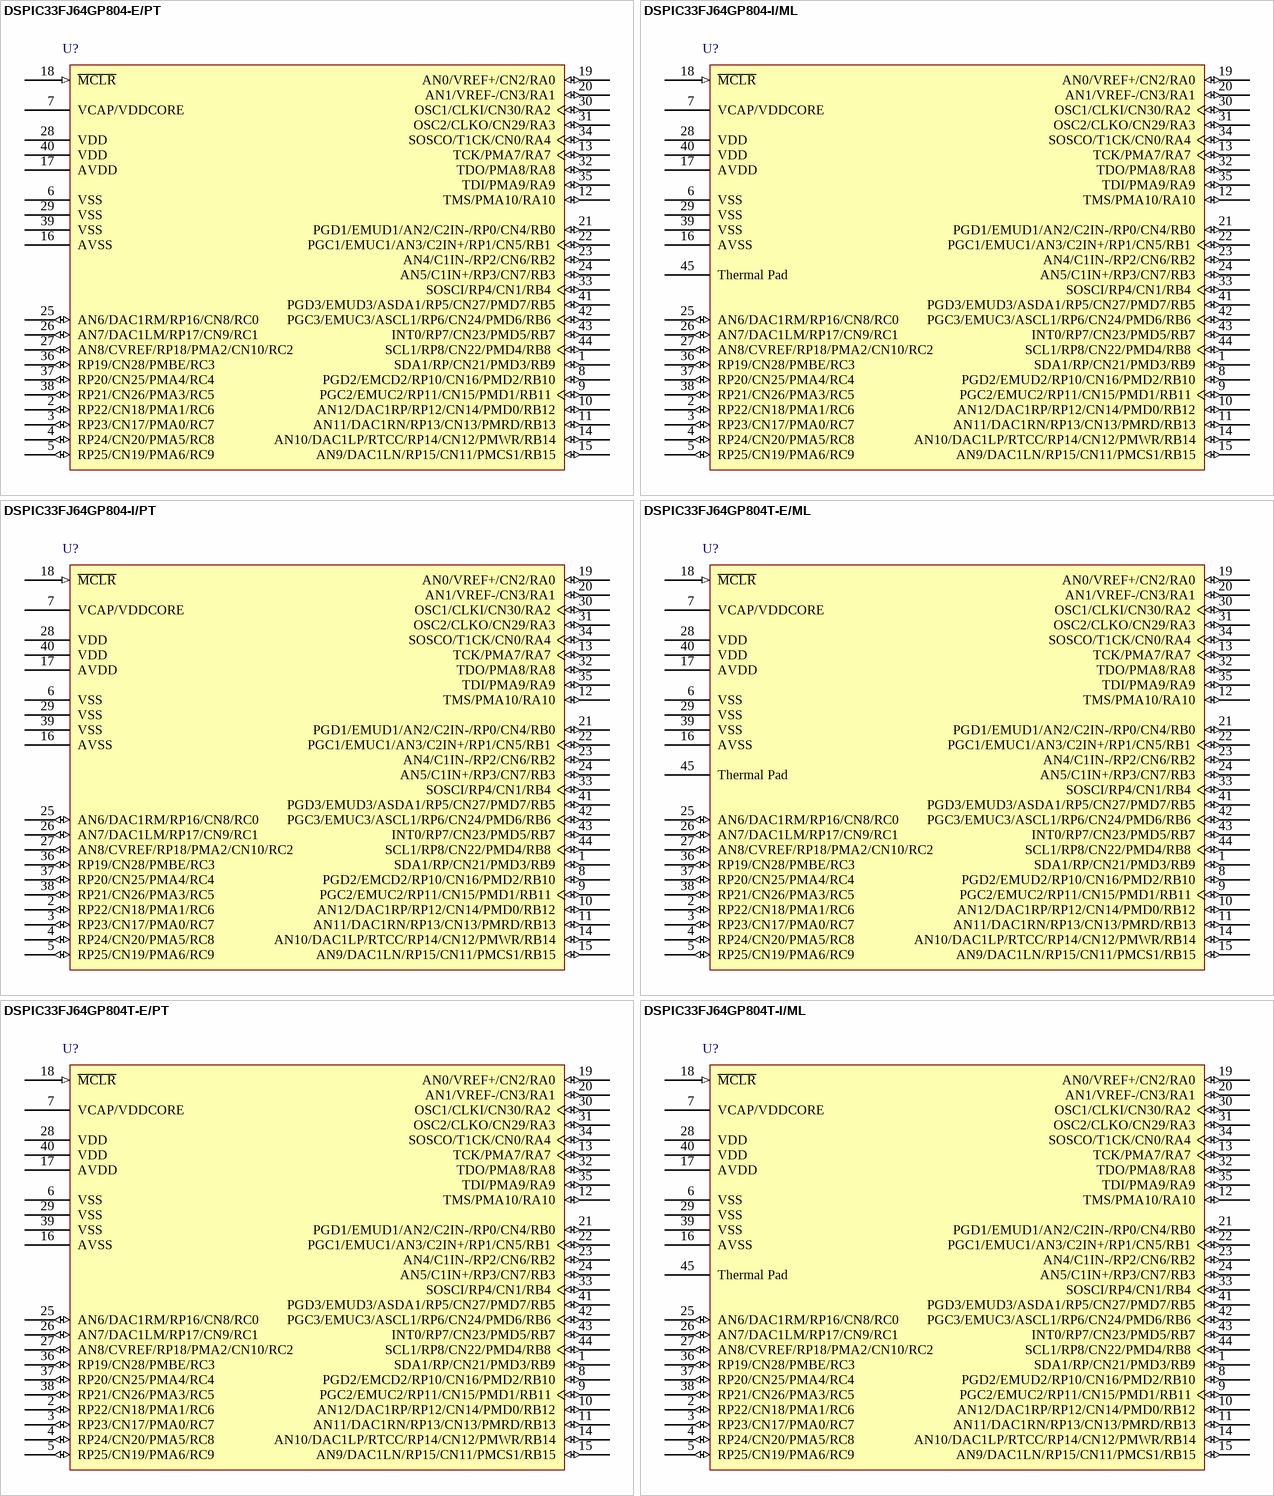
[diagram p46: symbols DSPIC33FJ64GP804-E/PT to DSPIC33FJ64GP804T-I/ML]

## DSPIC33FJ64GP804-E/PT
designator U?
High-Performance 16-bit Digital Signal Controller, 64 KB Flash, 16 KB RAM, 44-Pin TQFP, Extended High Temperature; FirstPublished: 29-Jan-2009; LatestRevisionDate: 02-Dec-2009; LatestRevisionNote: Updated to datasheet revision D, Nov-2009; DatasheetVersion: revD, Nov-2009; PackageVersion: revBB, Aug-2009; PackageReference: TQFP-PT44; Publisher: Altium Limited; PackageDescription: 44-Lead Plastic Thin Quad Flatpack (PT) - 10x10x1mm Body, 2.00mm [TQFP]; Supplier 1: Digi-Key; Supplier Part Number 1: DSPIC33FJ64GP804-E/PT-ND; Supplier 2: Newark; Supplier Part Number 2: 39M8228; Code_JEDEC: MS-026; ComponentLink1Description: Datasheet; ComponentLink1URL: http://ww1.microchip.com/downloads/en/DeviceDoc/70292D.pdf; ComponentLink2Description: Packaging Specification; ComponentLink2URL: http://www.microchip.com/stellent/groups/techpub_sg/documents/packagingspec/en012702.pdf; ComponentLink3Description: Microchip.com Home; ComponentLink3URL: http://www.microchip.com/
footprint TQFP-PT44_N (Thin QFP, 44-Leads, Body 10x10mm, Pitch 0.8mm, IPC Medium Density)
footprint TQFP-PT44_L (Thin QFP, 44-Leads, Body 10x10mm, Pitch 0.8mm, IPC High Density)
footprint TQFP-PT44_M (Thin QFP, 44-Leads, Body 10x10mm, Pitch 0.8mm, IPC Low Density)
pins: 1 SDA1/RP/CN21/PMD3/RB9 (io), 2 RP22/CN18/PMA1/RC6 (io), 3 RP23/CN17/PMA0/RC7 (io), 4 RP24/CN20/PMA5/RC8 (io), 5 RP25/CN19/PMA6/RC9 (io), 6 VSS (power), 7 VCAP/VDDCORE (power), 8 PGD2/EMCD2/RP10/CN16/PMD2/RB10 (io), 9 PGC2/EMUC2/RP11/CN15/PMD1/RB11 (io), 10 AN12/DAC1RP/RP12/CN14/PMD0/RB12 (io), 11 AN11/DAC1RN/RP13/CN13/PMRD/RB13 (io), 12 TMS/PMA10/RA10 (io), 13 TCK/PMA7/RA7 (io), 14 AN10/DAC1LP/RTCC/RP14/CN12/PMWR/RB14 (io), 15 AN9/DAC1LN/RP15/CN11/PMCS1/RB15 (io), 16 AVSS (power), 17 AVDD (power), 18 ~{MCLR} (in), 19 AN0/VREF+/CN2/RA0 (io), 20 AN1/VREF-/CN3/RA1 (io), 21 PGD1/EMUD1/AN2/C2IN-/RP0/CN4/RB0 (io), 22 PGC1/EMUC1/AN3/C2IN+/RP1/CN5/RB1 (io), 23 AN4/C1IN-/RP2/CN6/RB2 (io), 24 AN5/C1IN+/RP3/CN7/RB3 (io), 25 AN6/DAC1RM/RP16/CN8/RC0 (io), 26 AN7/DAC1LM/RP17/CN9/RC1 (io), 27 AN8/CVREF/RP18/PMA2/CN10/RC2 (io), 28 VDD (power), 29 VSS (power), 30 OSC1/CLKI/CN30/RA2 (io), 31 OSC2/CLKO/CN29/RA3 (io), 32 TDO/PMA8/RA8 (io), 33 SOSCI/RP4/CN1/RB4 (io), 34 SOSCO/T1CK/CN0/RA4 (io), 35 TDI/PMA9/RA9 (io), 36 RP19/CN28/PMBE/RC3 (io), 37 RP20/CN25/PMA4/RC4 (io), 38 RP21/CN26/PMA3/RC5 (io), 39 VSS (power), 40 VDD (power), 41 PGD3/EMUD3/ASDA1/RP5/CN27/PMD7/RB5 (io), 42 PGC3/EMUC3/ASCL1/RP6/CN24/PMD6/RB6 (io), 43 INT0/RP7/CN23/PMD5/RB7 (io), 44 SCL1/RP8/CN22/PMD4/RB8 (io)

## DSPIC33FJ64GP804-I/ML
designator U?
High-Performance 16-bit Digital Signal Controller, 64 KB Flash, 16 KB RAM, 44-Pin QFN, Industrial Temperature; FirstPublished: 29-Jan-2009; LatestRevisionDate: 02-Dec-2009; LatestRevisionNote: Updated to datasheet revision D, Nov-2009; DatasheetVersion: revD, Nov-2009; PackageVersion: revBB, Aug-2009; PackageReference: QFN-ML44; Publisher: Altium Limited; PackageDescription: 44-Lead Plastic Quad Flat, No Lead Package (ML) - 8x8 mm Body [QFN]; Supplier 1: Digi-Key; Supplier Part Number 1: DSPIC33FJ64GP804-I/ML-ND; Supplier 2: Farnell; Supplier Part Number 2: 1576831; Supplier 3: Newark; Supplier Part Number 3: 39M8229; Code_JEDEC: MO-220; Code_IPC: QFN65P800X800-44V2; ComponentLink1Description: Datasheet; ComponentLink1URL: http://ww1.microchip.com/downloads/en/DeviceDoc/70292D.pdf; ComponentLink2Description: Packaging Specification; ComponentLink2URL: http://www.microchip.com/stellent/groups/techpub_sg/documents/packagingspec/en012702.pdf; ComponentLink3Description: Microchip.com Home; ComponentLink3URL: http://www.microchip.com/
footprint QFN-ML44_N (QFN, 44-Leads, Body 8x8 mm, Pitch 0.65mm, IPC Medium Density)
footprint QFN-ML44_L (QFN, 44-Leads, Body 8x8 mm, Pitch 0.65mm, IPC High Density)
footprint QFN-ML44_M (QFN, 44-Leads, Body 8x8 mm, Pitch 0.65mm, IPC Low Density)
pins: 1 SDA1/RP/CN21/PMD3/RB9 (io), 2 RP22/CN18/PMA1/RC6 (io), 3 RP23/CN17/PMA0/RC7 (io), 4 RP24/CN20/PMA5/RC8 (io), 5 RP25/CN19/PMA6/RC9 (io), 6 VSS (power), 7 VCAP/VDDCORE (power), 8 PGD2/EMUD2/RP10/CN16/PMD2/RB10 (io), 9 PGC2/EMUC2/RP11/CN15/PMD1/RB11 (io), 10 AN12/DAC1RP/RP12/CN14/PMD0/RB12 (io), 11 AN11/DAC1RN/RP13/CN13/PMRD/RB13 (io), 12 TMS/PMA10/RA10 (io), 13 TCK/PMA7/RA7 (io), 14 AN10/DAC1LP/RTCC/RP14/CN12/PMWR/RB14 (io), 15 AN9/DAC1LN/RP15/CN11/PMCS1/RB15 (io), 16 AVSS (power), 17 AVDD (power), 18 ~{MCLR} (in), 19 AN0/VREF+/CN2/RA0 (io), 20 AN1/VREF-/CN3/RA1 (io), 21 PGD1/EMUD1/AN2/C2IN-/RP0/CN4/RB0 (io), 22 PGC1/EMUC1/AN3/C2IN+/RP1/CN5/RB1 (io), 23 AN4/C1IN-/RP2/CN6/RB2 (io), 24 AN5/C1IN+/RP3/CN7/RB3 (io), 25 AN6/DAC1RM/RP16/CN8/RC0 (io), 26 AN7/DAC1LM/RP17/CN9/RC1 (io), 27 AN8/CVREF/RP18/PMA2/CN10/RC2 (io), 28 VDD (power), 29 VSS (power), 30 OSC1/CLKI/CN30/RA2 (io), 31 OSC2/CLKO/CN29/RA3 (io), 32 TDO/PMA8/RA8 (io), 33 SOSCI/RP4/CN1/RB4 (io), 34 SOSCO/T1CK/CN0/RA4 (io), 35 TDI/PMA9/RA9 (io), 36 RP19/CN28/PMBE/RC3 (io), 37 RP20/CN25/PMA4/RC4 (io), 38 RP21/CN26/PMA3/RC5 (io), 39 VSS (power), 40 VDD (power), 41 PGD3/EMUD3/ASDA1/RP5/CN27/PMD7/RB5 (io), 42 PGC3/EMUC3/ASCL1/RP6/CN24/PMD6/RB6 (io), 43 INT0/RP7/CN23/PMD5/RB7 (io), 44 SCL1/RP8/CN22/PMD4/RB8 (io), 45 Thermal Pad

## DSPIC33FJ64GP804-I/PT
designator U?
High-Performance 16-bit Digital Signal Controller, 64 KB Flash, 16 KB RAM, 44-Pin TQFP, Industrial Temperature; FirstPublished: 2-Dec-2009; DatasheetVersion: revD, Nov-2009; PackageVersion: revBB, Aug-2009; PackageReference: TQFP-PT44; Publisher: Altium Limited; PackageDescription: 44-Lead Plastic Thin Quad Flatpack (PT) - 10x10x1mm Body, 2.00mm [TQFP]; Supplier 1: Digi-Key; Supplier Part Number 1: DSPIC33FJ64GP804-I/PT-ND; Supplier 2: Farnell; Supplier Part Number 2: 1576832; Supplier 3: Newark; Supplier Part Number 3: 39M8230; Code_JEDEC: MS-026; ComponentLink1Description: Datasheet; ComponentLink1URL: http://ww1.microchip.com/downloads/en/DeviceDoc/70292D.pdf; ComponentLink2Description: Packaging Specification; ComponentLink2URL: http://www.microchip.com/stellent/groups/techpub_sg/documents/packagingspec/en012702.pdf; ComponentLink3Description: Microchip.com Home; ComponentLink3URL: http://www.microchip.com/
footprint TQFP-PT44_N (Thin QFP, 44-Leads, Body 10x10mm, Pitch 0.8mm, IPC Medium Density)
footprint TQFP-PT44_L (Thin QFP, 44-Leads, Body 10x10mm, Pitch 0.8mm, IPC High Density)
footprint TQFP-PT44_M (Thin QFP, 44-Leads, Body 10x10mm, Pitch 0.8mm, IPC Low Density)
pins: 1 SDA1/RP/CN21/PMD3/RB9 (io), 2 RP22/CN18/PMA1/RC6 (io), 3 RP23/CN17/PMA0/RC7 (io), 4 RP24/CN20/PMA5/RC8 (io), 5 RP25/CN19/PMA6/RC9 (io), 6 VSS (power), 7 VCAP/VDDCORE (power), 8 PGD2/EMCD2/RP10/CN16/PMD2/RB10 (io), 9 PGC2/EMUC2/RP11/CN15/PMD1/RB11 (io), 10 AN12/DAC1RP/RP12/CN14/PMD0/RB12 (io), 11 AN11/DAC1RN/RP13/CN13/PMRD/RB13 (io), 12 TMS/PMA10/RA10 (io), 13 TCK/PMA7/RA7 (io), 14 AN10/DAC1LP/RTCC/RP14/CN12/PMWR/RB14 (io), 15 AN9/DAC1LN/RP15/CN11/PMCS1/RB15 (io), 16 AVSS (power), 17 AVDD (power), 18 ~{MCLR} (in), 19 AN0/VREF+/CN2/RA0 (io), 20 AN1/VREF-/CN3/RA1 (io), 21 PGD1/EMUD1/AN2/C2IN-/RP0/CN4/RB0 (io), 22 PGC1/EMUC1/AN3/C2IN+/RP1/CN5/RB1 (io), 23 AN4/C1IN-/RP2/CN6/RB2 (io), 24 AN5/C1IN+/RP3/CN7/RB3 (io), 25 AN6/DAC1RM/RP16/CN8/RC0 (io), 26 AN7/DAC1LM/RP17/CN9/RC1 (io), 27 AN8/CVREF/RP18/PMA2/CN10/RC2 (io), 28 VDD (power), 29 VSS (power), 30 OSC1/CLKI/CN30/RA2 (io), 31 OSC2/CLKO/CN29/RA3 (io), 32 TDO/PMA8/RA8 (io), 33 SOSCI/RP4/CN1/RB4 (io), 34 SOSCO/T1CK/CN0/RA4 (io), 35 TDI/PMA9/RA9 (io), 36 RP19/CN28/PMBE/RC3 (io), 37 RP20/CN25/PMA4/RC4 (io), 38 RP21/CN26/PMA3/RC5 (io), 39 VSS (power), 40 VDD (power), 41 PGD3/EMUD3/ASDA1/RP5/CN27/PMD7/RB5 (io), 42 PGC3/EMUC3/ASCL1/RP6/CN24/PMD6/RB6 (io), 43 INT0/RP7/CN23/PMD5/RB7 (io), 44 SCL1/RP8/CN22/PMD4/RB8 (io)

## DSPIC33FJ64GP804T-E/ML
designator U?
High-Performance 16-bit Digital Signal Controller, 64 KB Flash, 16 KB RAM, 44-Pin QFN, Extended High Temperature, Tape and Reel; FirstPublished: 29-Jan-2009; LatestRevisionDate: 02-Dec-2009; LatestRevisionNote: Updated to datasheet revision D, Nov-2009; DatasheetVersion: revD, Nov-2009; PackageVersion: revBB, Aug-2009; PackageReference: QFN-ML44; Publisher: Altium Limited; PackageDescription: 44-Lead Plastic Quad Flat, No Lead Package (ML) - 8x8 mm Body [QFN]; Code_JEDEC: MO-220; Code_IPC: QFN65P800X800-44V2; ComponentLink1Description: Datasheet; ComponentLink1URL: http://ww1.microchip.com/downloads/en/DeviceDoc/70292D.pdf; ComponentLink2Description: Packaging Specification; ComponentLink2URL: http://www.microchip.com/stellent/groups/techpub_sg/documents/packagingspec/en012702.pdf; ComponentLink3Description: Microchip.com Home; ComponentLink3URL: http://www.microchip.com/
footprint QFN-ML44_N (QFN, 44-Leads, Body 8x8 mm, Pitch 0.65mm, IPC Medium Density)
footprint QFN-ML44_L (QFN, 44-Leads, Body 8x8 mm, Pitch 0.65mm, IPC High Density)
footprint QFN-ML44_M (QFN, 44-Leads, Body 8x8 mm, Pitch 0.65mm, IPC Low Density)
pins: 1 SDA1/RP/CN21/PMD3/RB9 (io), 2 RP22/CN18/PMA1/RC6 (io), 3 RP23/CN17/PMA0/RC7 (io), 4 RP24/CN20/PMA5/RC8 (io), 5 RP25/CN19/PMA6/RC9 (io), 6 VSS (power), 7 VCAP/VDDCORE (power), 8 PGD2/EMUD2/RP10/CN16/PMD2/RB10 (io), 9 PGC2/EMUC2/RP11/CN15/PMD1/RB11 (io), 10 AN12/DAC1RP/RP12/CN14/PMD0/RB12 (io), 11 AN11/DAC1RN/RP13/CN13/PMRD/RB13 (io), 12 TMS/PMA10/RA10 (io), 13 TCK/PMA7/RA7 (io), 14 AN10/DAC1LP/RTCC/RP14/CN12/PMWR/RB14 (io), 15 AN9/DAC1LN/RP15/CN11/PMCS1/RB15 (io), 16 AVSS (power), 17 AVDD (power), 18 ~{MCLR} (in), 19 AN0/VREF+/CN2/RA0 (io), 20 AN1/VREF-/CN3/RA1 (io), 21 PGD1/EMUD1/AN2/C2IN-/RP0/CN4/RB0 (io), 22 PGC1/EMUC1/AN3/C2IN+/RP1/CN5/RB1 (io), 23 AN4/C1IN-/RP2/CN6/RB2 (io), 24 AN5/C1IN+/RP3/CN7/RB3 (io), 25 AN6/DAC1RM/RP16/CN8/RC0 (io), 26 AN7/DAC1LM/RP17/CN9/RC1 (io), 27 AN8/CVREF/RP18/PMA2/CN10/RC2 (io), 28 VDD (power), 29 VSS (power), 30 OSC1/CLKI/CN30/RA2 (io), 31 OSC2/CLKO/CN29/RA3 (io), 32 TDO/PMA8/RA8 (io), 33 SOSCI/RP4/CN1/RB4 (io), 34 SOSCO/T1CK/CN0/RA4 (io), 35 TDI/PMA9/RA9 (io), 36 RP19/CN28/PMBE/RC3 (io), 37 RP20/CN25/PMA4/RC4 (io), 38 RP21/CN26/PMA3/RC5 (io), 39 VSS (power), 40 VDD (power), 41 PGD3/EMUD3/ASDA1/RP5/CN27/PMD7/RB5 (io), 42 PGC3/EMUC3/ASCL1/RP6/CN24/PMD6/RB6 (io), 43 INT0/RP7/CN23/PMD5/RB7 (io), 44 SCL1/RP8/CN22/PMD4/RB8 (io), 45 Thermal Pad

## DSPIC33FJ64GP804T-E/PT
designator U?
High-Performance 16-bit Digital Signal Controller, 64 KB Flash, 16 KB RAM, 44-Pin TQFP, Extended High Temperature, Tape and Reel; FirstPublished: 29-Jan-2009; LatestRevisionDate: 02-Dec-2009; LatestRevisionNote: Updated to datasheet revision D, Nov-2009; DatasheetVersion: revD, Nov-2009; PackageVersion: revBB, Aug-2009; PackageReference: TQFP-PT44; Publisher: Altium Limited; PackageDescription: 44-Lead Plastic Thin Quad Flatpack (PT) - 10x10x1mm Body, 2.00mm [TQFP]; Code_JEDEC: MS-026; ComponentLink1Description: Datasheet; ComponentLink1URL: http://ww1.microchip.com/downloads/en/DeviceDoc/70292D.pdf; ComponentLink2Description: Packaging Specification; ComponentLink2URL: http://www.microchip.com/stellent/groups/techpub_sg/documents/packagingspec/en012702.pdf; ComponentLink3Description: Microchip.com Home; ComponentLink3URL: http://www.microchip.com/
footprint TQFP-PT44_N (Thin QFP, 44-Leads, Body 10x10mm, Pitch 0.8mm, IPC Medium Density)
footprint TQFP-PT44_L (Thin QFP, 44-Leads, Body 10x10mm, Pitch 0.8mm, IPC High Density)
footprint TQFP-PT44_M (Thin QFP, 44-Leads, Body 10x10mm, Pitch 0.8mm, IPC Low Density)
pins: 1 SDA1/RP/CN21/PMD3/RB9 (io), 2 RP22/CN18/PMA1/RC6 (io), 3 RP23/CN17/PMA0/RC7 (io), 4 RP24/CN20/PMA5/RC8 (io), 5 RP25/CN19/PMA6/RC9 (io), 6 VSS (power), 7 VCAP/VDDCORE (power), 8 PGD2/EMCD2/RP10/CN16/PMD2/RB10 (io), 9 PGC2/EMUC2/RP11/CN15/PMD1/RB11 (io), 10 AN12/DAC1RP/RP12/CN14/PMD0/RB12 (io), 11 AN11/DAC1RN/RP13/CN13/PMRD/RB13 (io), 12 TMS/PMA10/RA10 (io), 13 TCK/PMA7/RA7 (io), 14 AN10/DAC1LP/RTCC/RP14/CN12/PMWR/RB14 (io), 15 AN9/DAC1LN/RP15/CN11/PMCS1/RB15 (io), 16 AVSS (power), 17 AVDD (power), 18 ~{MCLR} (in), 19 AN0/VREF+/CN2/RA0 (io), 20 AN1/VREF-/CN3/RA1 (io), 21 PGD1/EMUD1/AN2/C2IN-/RP0/CN4/RB0 (io), 22 PGC1/EMUC1/AN3/C2IN+/RP1/CN5/RB1 (io), 23 AN4/C1IN-/RP2/CN6/RB2 (io), 24 AN5/C1IN+/RP3/CN7/RB3 (io), 25 AN6/DAC1RM/RP16/CN8/RC0 (io), 26 AN7/DAC1LM/RP17/CN9/RC1 (io), 27 AN8/CVREF/RP18/PMA2/CN10/RC2 (io), 28 VDD (power), 29 VSS (power), 30 OSC1/CLKI/CN30/RA2 (io), 31 OSC2/CLKO/CN29/RA3 (io), 32 TDO/PMA8/RA8 (io), 33 SOSCI/RP4/CN1/RB4 (io), 34 SOSCO/T1CK/CN0/RA4 (io), 35 TDI/PMA9/RA9 (io), 36 RP19/CN28/PMBE/RC3 (io), 37 RP20/CN25/PMA4/RC4 (io), 38 RP21/CN26/PMA3/RC5 (io), 39 VSS (power), 40 VDD (power), 41 PGD3/EMUD3/ASDA1/RP5/CN27/PMD7/RB5 (io), 42 PGC3/EMUC3/ASCL1/RP6/CN24/PMD6/RB6 (io), 43 INT0/RP7/CN23/PMD5/RB7 (io), 44 SCL1/RP8/CN22/PMD4/RB8 (io)

## DSPIC33FJ64GP804T-I/ML
designator U?
High-Performance 16-bit Digital Signal Controller, 64 KB Flash, 16 KB RAM, 44-Pin QFN, Industrial Temperature, Tape and Reel; FirstPublished: 29-Jan-2009; LatestRevisionDate: 02-Dec-2009; LatestRevisionNote: Updated to datasheet revision D, Nov-2009; DatasheetVersion: revD, Nov-2009; PackageVersion: revBB, Aug-2009; PackageReference: QFN-ML44; Publisher: Altium Limited; PackageDescription: 44-Lead Plastic Quad Flat, No Lead Package (ML) - 8x8 mm Body [QFN]; Supplier 1: Digi-Key; Supplier Part Number 1: DSPIC33FJ64GP804T-I/MLTR-ND; Supplier 2: Newark; Supplier Part Number 2: 39M8231; Code_JEDEC: MO-220; Code_IPC: QFN65P800X800-44V2; ComponentLink1Description: Datasheet; ComponentLink1URL: http://ww1.microchip.com/downloads/en/DeviceDoc/70292D.pdf; ComponentLink2Description: Packaging Specification; ComponentLink2URL: http://www.microchip.com/stellent/groups/techpub_sg/documents/packagingspec/en012702.pdf; ComponentLink3Description: Microchip.com Home; ComponentLink3URL: http://www.microchip.com/
footprint QFN-ML44_N (QFN, 44-Leads, Body 8x8 mm, Pitch 0.65mm, IPC Medium Density)
footprint QFN-ML44_L (QFN, 44-Leads, Body 8x8 mm, Pitch 0.65mm, IPC High Density)
footprint QFN-ML44_M (QFN, 44-Leads, Body 8x8 mm, Pitch 0.65mm, IPC Low Density)
pins: 1 SDA1/RP/CN21/PMD3/RB9 (io), 2 RP22/CN18/PMA1/RC6 (io), 3 RP23/CN17/PMA0/RC7 (io), 4 RP24/CN20/PMA5/RC8 (io), 5 RP25/CN19/PMA6/RC9 (io), 6 VSS (power), 7 VCAP/VDDCORE (power), 8 PGD2/EMUD2/RP10/CN16/PMD2/RB10 (io), 9 PGC2/EMUC2/RP11/CN15/PMD1/RB11 (io), 10 AN12/DAC1RP/RP12/CN14/PMD0/RB12 (io), 11 AN11/DAC1RN/RP13/CN13/PMRD/RB13 (io), 12 TMS/PMA10/RA10 (io), 13 TCK/PMA7/RA7 (io), 14 AN10/DAC1LP/RTCC/RP14/CN12/PMWR/RB14 (io), 15 AN9/DAC1LN/RP15/CN11/PMCS1/RB15 (io), 16 AVSS (power), 17 AVDD (power), 18 ~{MCLR} (in), 19 AN0/VREF+/CN2/RA0 (io), 20 AN1/VREF-/CN3/RA1 (io), 21 PGD1/EMUD1/AN2/C2IN-/RP0/CN4/RB0 (io), 22 PGC1/EMUC1/AN3/C2IN+/RP1/CN5/RB1 (io), 23 AN4/C1IN-/RP2/CN6/RB2 (io), 24 AN5/C1IN+/RP3/CN7/RB3 (io), 25 AN6/DAC1RM/RP16/CN8/RC0 (io), 26 AN7/DAC1LM/RP17/CN9/RC1 (io), 27 AN8/CVREF/RP18/PMA2/CN10/RC2 (io), 28 VDD (power), 29 VSS (power), 30 OSC1/CLKI/CN30/RA2 (io), 31 OSC2/CLKO/CN29/RA3 (io), 32 TDO/PMA8/RA8 (io), 33 SOSCI/RP4/CN1/RB4 (io), 34 SOSCO/T1CK/CN0/RA4 (io), 35 TDI/PMA9/RA9 (io), 36 RP19/CN28/PMBE/RC3 (io), 37 RP20/CN25/PMA4/RC4 (io), 38 RP21/CN26/PMA3/RC5 (io), 39 VSS (power), 40 VDD (power), 41 PGD3/EMUD3/ASDA1/RP5/CN27/PMD7/RB5 (io), 42 PGC3/EMUC3/ASCL1/RP6/CN24/PMD6/RB6 (io), 43 INT0/RP7/CN23/PMD5/RB7 (io), 44 SCL1/RP8/CN22/PMD4/RB8 (io), 45 Thermal Pad

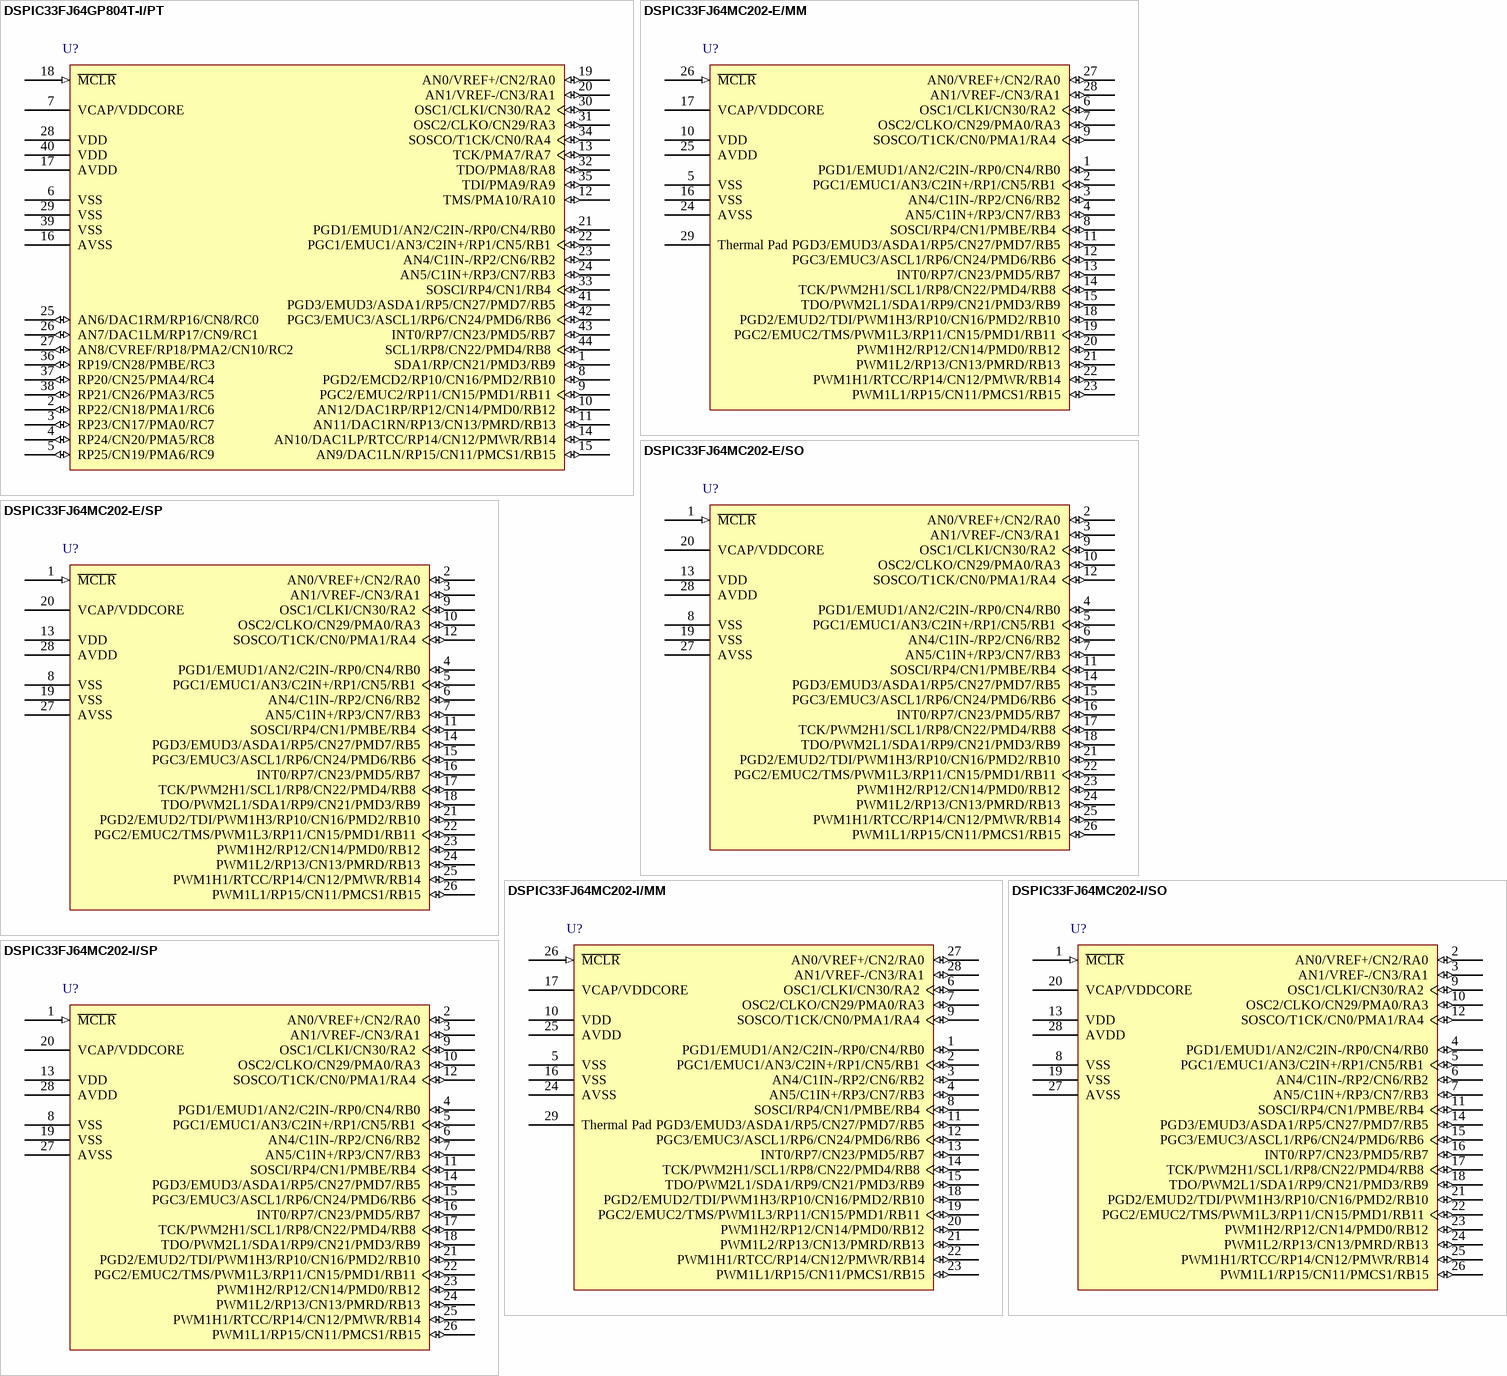
[diagram p47: symbols DSPIC33FJ64GP804T-I/PT to DSPIC33FJ64MC202-I/SP]

## DSPIC33FJ64GP804T-I/PT
designator U?
High-Performance 16-bit Digital Signal Controller, 64 KB Flash, 16 KB RAM, 44-Pin TQFP, Industrial Temperature, Tape and Reel; FirstPublished: 29-Jan-2009; LatestRevisionDate: 02-Dec-2009; LatestRevisionNote: Updated to datasheet revision D, Nov-2009; DatasheetVersion: revD, Nov-2009; PackageVersion: revBB, Aug-2009; PackageReference: TQFP-PT44; Publisher: Altium Limited; PackageDescription: 44-Lead Plastic Thin Quad Flatpack (PT) - 10x10x1mm Body, 2.00mm [TQFP]; Supplier 1: Digi-Key; Supplier Part Number 1: DSPIC33FJ64GP804T-I/PTTR-ND; Supplier 2: Newark; Supplier Part Number 2: 39M8232; Code_JEDEC: MS-026; ComponentLink1Description: Datasheet; ComponentLink1URL: http://ww1.microchip.com/downloads/en/DeviceDoc/70292D.pdf; ComponentLink2Description: Packaging Specification; ComponentLink2URL: http://www.microchip.com/stellent/groups/techpub_sg/documents/packagingspec/en012702.pdf; ComponentLink3Description: Microchip.com Home; ComponentLink3URL: http://www.microchip.com/
footprint TQFP-PT44_N (Thin QFP, 44-Leads, Body 10x10mm, Pitch 0.8mm, IPC Medium Density)
footprint TQFP-PT44_L (Thin QFP, 44-Leads, Body 10x10mm, Pitch 0.8mm, IPC High Density)
footprint TQFP-PT44_M (Thin QFP, 44-Leads, Body 10x10mm, Pitch 0.8mm, IPC Low Density)
pins: 1 SDA1/RP/CN21/PMD3/RB9 (io), 2 RP22/CN18/PMA1/RC6 (io), 3 RP23/CN17/PMA0/RC7 (io), 4 RP24/CN20/PMA5/RC8 (io), 5 RP25/CN19/PMA6/RC9 (io), 6 VSS (power), 7 VCAP/VDDCORE (power), 8 PGD2/EMCD2/RP10/CN16/PMD2/RB10 (io), 9 PGC2/EMUC2/RP11/CN15/PMD1/RB11 (io), 10 AN12/DAC1RP/RP12/CN14/PMD0/RB12 (io), 11 AN11/DAC1RN/RP13/CN13/PMRD/RB13 (io), 12 TMS/PMA10/RA10 (io), 13 TCK/PMA7/RA7 (io), 14 AN10/DAC1LP/RTCC/RP14/CN12/PMWR/RB14 (io), 15 AN9/DAC1LN/RP15/CN11/PMCS1/RB15 (io), 16 AVSS (power), 17 AVDD (power), 18 ~{MCLR} (in), 19 AN0/VREF+/CN2/RA0 (io), 20 AN1/VREF-/CN3/RA1 (io), 21 PGD1/EMUD1/AN2/C2IN-/RP0/CN4/RB0 (io), 22 PGC1/EMUC1/AN3/C2IN+/RP1/CN5/RB1 (io), 23 AN4/C1IN-/RP2/CN6/RB2 (io), 24 AN5/C1IN+/RP3/CN7/RB3 (io), 25 AN6/DAC1RM/RP16/CN8/RC0 (io), 26 AN7/DAC1LM/RP17/CN9/RC1 (io), 27 AN8/CVREF/RP18/PMA2/CN10/RC2 (io), 28 VDD (power), 29 VSS (power), 30 OSC1/CLKI/CN30/RA2 (io), 31 OSC2/CLKO/CN29/RA3 (io), 32 TDO/PMA8/RA8 (io), 33 SOSCI/RP4/CN1/RB4 (io), 34 SOSCO/T1CK/CN0/RA4 (io), 35 TDI/PMA9/RA9 (io), 36 RP19/CN28/PMBE/RC3 (io), 37 RP20/CN25/PMA4/RC4 (io), 38 RP21/CN26/PMA3/RC5 (io), 39 VSS (power), 40 VDD (power), 41 PGD3/EMUD3/ASDA1/RP5/CN27/PMD7/RB5 (io), 42 PGC3/EMUC3/ASCL1/RP6/CN24/PMD6/RB6 (io), 43 INT0/RP7/CN23/PMD5/RB7 (io), 44 SCL1/RP8/CN22/PMD4/RB8 (io)

## DSPIC33FJ64MC202-E/MM
designator U?
High-Performance 16-bit Digital Signal Controller, 64 KB Flash, 8 KB RAM, 28-Pin QFN, Extended High Temperature; FirstPublished: 29-Jan-2009; LatestRevisionDate: 02-Dec-2009; LatestRevisionNote: Updated to datasheet revision D, Nov-2009; DatasheetVersion: revD, Nov-2009; PackageVersion: revBB, Aug-2009; PackageReference: QFNS-MM28; Publisher: Altium Limited; PackageDescription: 28-Lead Plastic Quad Flat, No Lead Package (MM) - 6x6x0.9 mm Body [QFN-S] with 0.40 mm Contact Length; Supplier 1: Digi-Key; Supplier Part Number 1: DSPIC33FJ64MC202-E/MM-ND; Supplier 2: Newark; Supplier Part Number 2: 77M2376; ComponentLink1Description: Datasheet; ComponentLink1URL: http://ww1.microchip.com/downloads/en/DeviceDoc/70291D.pdf; ComponentLink2Description: Packaging Specification; ComponentLink2URL: http://www.microchip.com/stellent/groups/techpub_sg/documents/packagingspec/en012702.pdf; ComponentLink3Description: Microchip.com Home; ComponentLink3URL: http://www.microchip.com/
footprint QFNS-MM28_N (QFN, 28-Leads, Body 6x6 mm, Pitch 0.65mm, IPC Medium Density)
footprint QFNS-MM28_L (QFN, 28-Leads, Body 6x6 mm, Pitch 0.65mm, IPC High Density)
footprint QFNS-MM28_M (QFN, 28-Leads, Body 6x6 mm, Pitch 0.65mm, IPC Low Density)
pins: 1 PGD1/EMUD1/AN2/C2IN-/RP0/CN4/RB0 (io), 2 PGC1/EMUC1/AN3/C2IN+/RP1/CN5/RB1 (io), 3 AN4/C1IN-/RP2/CN6/RB2 (io), 4 AN5/C1IN+/RP3/CN7/RB3 (io), 5 VSS (power), 6 OSC1/CLKI/CN30/RA2 (io), 7 OSC2/CLKO/CN29/PMA0/RA3 (io), 8 SOSCI/RP4/CN1/PMBE/RB4 (io), 9 SOSCO/T1CK/CN0/PMA1/RA4 (io), 10 VDD (power), 11 PGD3/EMUD3/ASDA1/RP5/CN27/PMD7/RB5 (io), 12 PGC3/EMUC3/ASCL1/RP6/CN24/PMD6/RB6 (io), 13 INT0/RP7/CN23/PMD5/RB7 (io), 14 TCK/PWM2H1/SCL1/RP8/CN22/PMD4/RB8 (io), 15 TDO/PWM2L1/SDA1/RP9/CN21/PMD3/RB9 (io), 16 VSS (power), 17 VCAP/VDDCORE (power), 18 PGD2/EMUD2/TDI/PWM1H3/RP10/CN16/PMD2/RB10 (io), 19 PGC2/EMUC2/TMS/PWM1L3/RP11/CN15/PMD1/RB11 (io), 20 PWM1H2/RP12/CN14/PMD0/RB12 (io), 21 PWM1L2/RP13/CN13/PMRD/RB13 (io), 22 PWM1H1/RTCC/RP14/CN12/PMWR/RB14 (io), 23 PWM1L1/RP15/CN11/PMCS1/RB15 (io), 24 AVSS (power), 25 AVDD (power), 26 ~{MCLR} (in), 27 AN0/VREF+/CN2/RA0 (io), 28 AN1/VREF-/CN3/RA1 (io), 29 Thermal Pad

## DSPIC33FJ64MC202-E/SO
designator U?
High-Performance 16-bit Digital Signal Controller, 64 KB Flash, 8 KB RAM, 28-Pin SOIC, Extended High Temperature; FirstPublished: 29-Jan-2009; LatestRevisionDate: 02-Dec-2009; LatestRevisionNote: Updated to datasheet revision D, Nov-2009; DatasheetVersion: revD, Nov-2009; PackageVersion: revBB, Aug-2009; PackageReference: SOIC-SO28; Publisher: Altium Limited; PackageDescription: 28-Lead Plastic Small Outline (SO) - Wide 7.50mm Body [SOIC]; Supplier 1: Digi-Key; Supplier Part Number 1: DSPIC33FJ64MC202-E/SO-ND; Supplier 2: Newark; Supplier Part Number 2: 39M8233; Code_JEDEC: MS-013; ComponentLink1Description: Datasheet; ComponentLink1URL: http://ww1.microchip.com/downloads/en/DeviceDoc/70291D.pdf; ComponentLink2Description: Packaging Specification; ComponentLink2URL: http://www.microchip.com/stellent/groups/techpub_sg/documents/packagingspec/en012702.pdf; ComponentLink3Description: Microchip.com Home; ComponentLink3URL: http://www.microchip.com/
footprint SOIC-SO28_N (SOIC, 28-Leads, Body 17.9x7.5mm, Pitch 1.27mm, IPC Medium Density)
footprint SOIC-SO28_L (SOIC, 28-Leads, Body 17.9x7.5mm, Pitch 1.27mm, IPC High Density)
footprint SOIC-SO28_M (SOIC, 28-Leads, Body 17.9x7.5mm, Pitch 1.27mm, IPC Low Density)
pins: 1 ~{MCLR} (in), 2 AN0/VREF+/CN2/RA0 (io), 3 AN1/VREF-/CN3/RA1 (io), 4 PGD1/EMUD1/AN2/C2IN-/RP0/CN4/RB0 (io), 5 PGC1/EMUC1/AN3/C2IN+/RP1/CN5/RB1 (io), 6 AN4/C1IN-/RP2/CN6/RB2 (io), 7 AN5/C1IN+/RP3/CN7/RB3 (io), 8 VSS (power), 9 OSC1/CLKI/CN30/RA2 (io), 10 OSC2/CLKO/CN29/PMA0/RA3 (io), 11 SOSCI/RP4/CN1/PMBE/RB4 (io), 12 SOSCO/T1CK/CN0/PMA1/RA4 (io), 13 VDD (power), 14 PGD3/EMUD3/ASDA1/RP5/CN27/PMD7/RB5 (io), 15 PGC3/EMUC3/ASCL1/RP6/CN24/PMD6/RB6 (io), 16 INT0/RP7/CN23/PMD5/RB7 (io), 17 TCK/PWM2H1/SCL1/RP8/CN22/PMD4/RB8 (io), 18 TDO/PWM2L1/SDA1/RP9/CN21/PMD3/RB9 (io), 19 VSS (power), 20 VCAP/VDDCORE (power), 21 PGD2/EMUD2/TDI/PWM1H3/RP10/CN16/PMD2/RB10 (io), 22 PGC2/EMUC2/TMS/PWM1L3/RP11/CN15/PMD1/RB11 (io), 23 PWM1H2/RP12/CN14/PMD0/RB12 (io), 24 PWM1L2/RP13/CN13/PMRD/RB13 (io), 25 PWM1H1/RTCC/RP14/CN12/PMWR/RB14 (io), 26 PWM1L1/RP15/CN11/PMCS1/RB15 (io), 27 AVSS (power), 28 AVDD (power)